# Altium integrated library Xilinx PLD XC9500XL.IntLib: 85 symbols (part 2 of 5)
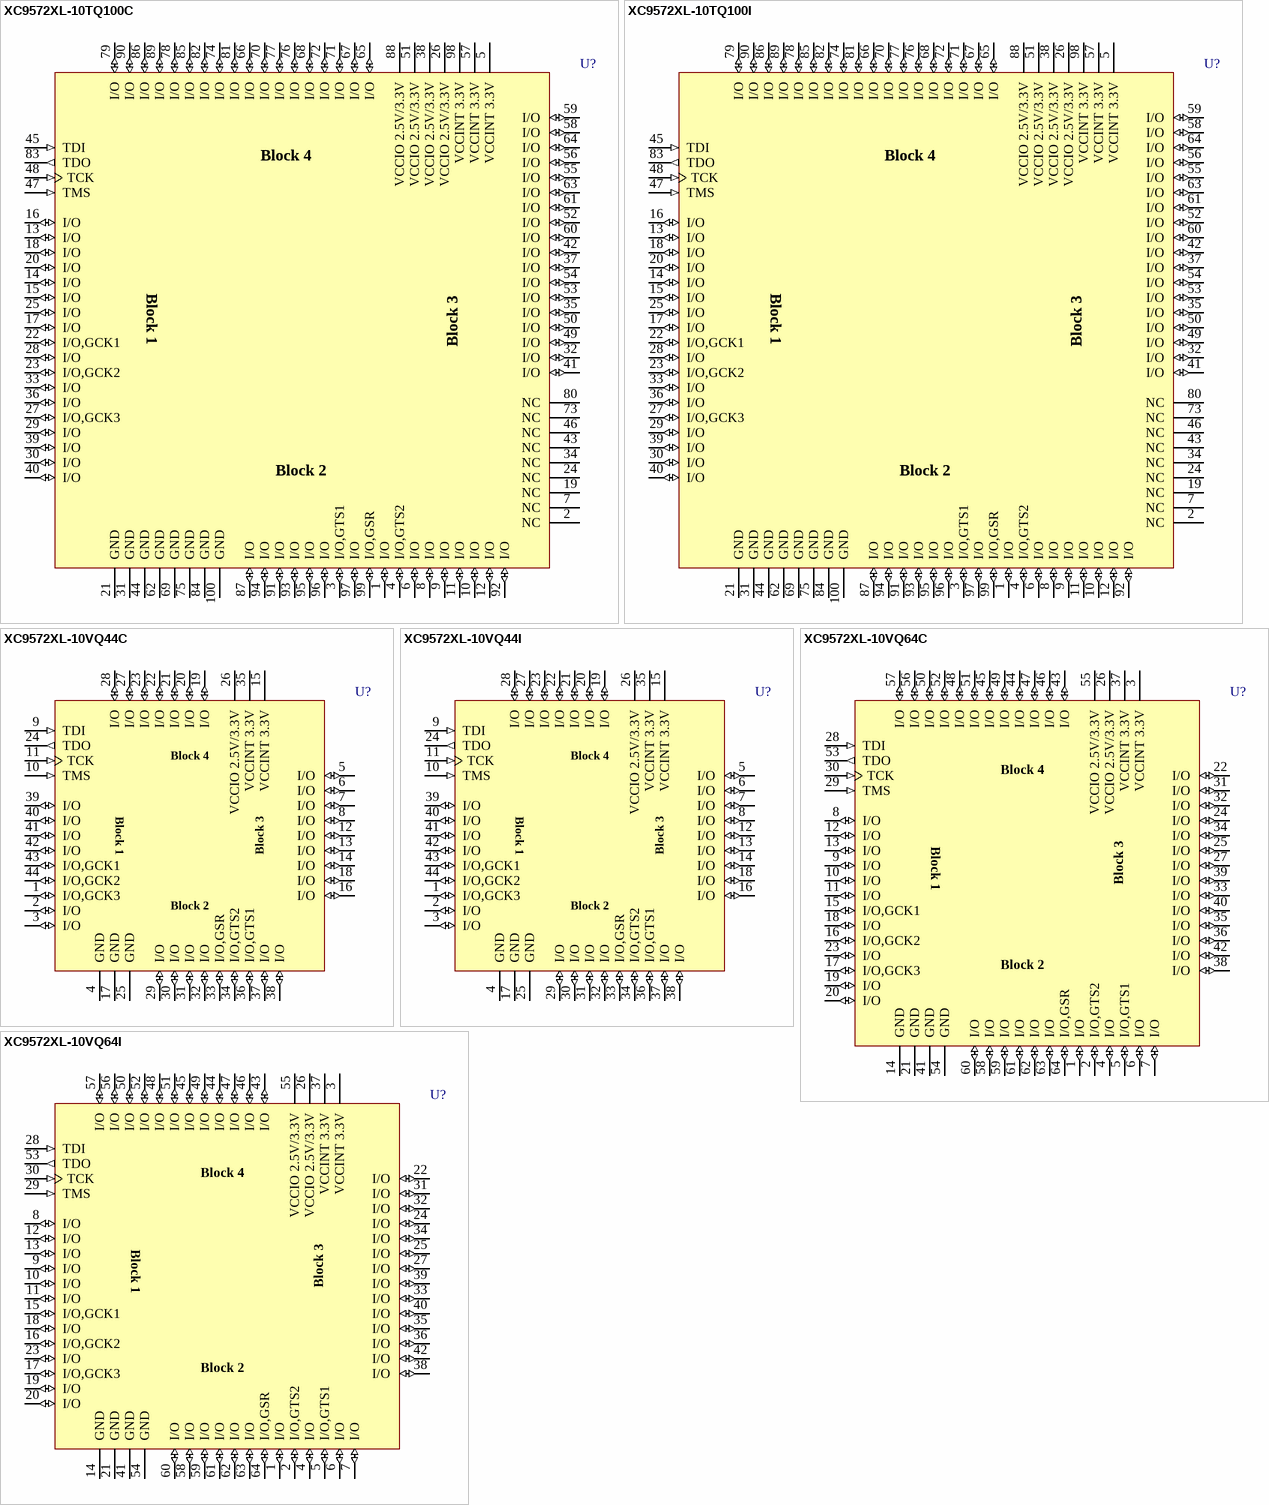
[diagram p34: symbols XC9572XL-10TQ100C to XC9572XL-10VQ64I]

## XC9572XL-10TQ100C
designator U?
FastFLASH XC900XL, 3.3V High-Performance CPLD with 72 Macrocells, 100-Pin TQFP, Commercial Grade; PackageDocument: ver1.1, Oct-2002; Published: 17-Jul-2002; DatasheetDocument: ver1.4, Aug-2003; PackageReference: TQ100; Publisher: Altium Limited; Code_IPC: SQFP14X14-100
footprint TQ100 (100-Pin Thin Quad Flat Pack (TQ100))
3D model XC9572XL-TQ100 (100-Pin Thin Quad Flat Pack (TQ100))
signal-integrity model XC9572XL_TQ100 (XC9500XL)
pins: 1 I/O (io), 2 NC, 3 I/O,GTS1 (io), 4 I/O,GTS2 (io), 5 VCCINT 3.3V (power), 6 I/O (io), 7 NC, 8 I/O (io), 9 I/O (io), 10 I/O (io), 11 I/O (io), 12 I/O (io), 13 I/O (io), 14 I/O (io), 15 I/O (io), 16 I/O (io), 17 I/O (io), 18 I/O (io), 19 NC, 20 I/O (io), 21 GND (power), 22 I/O,GCK1 (io), 23 I/O,GCK2 (io), 24 NC, 25 I/O (io), 26 VCCIO 2.5V/3.3V (power), 27 I/O,GCK3 (io), 28 I/O (io), 29 I/O (io), 30 I/O (io), 31 GND (power), 32 I/O (io), 33 I/O (io), 34 NC, 35 I/O (io), 36 I/O (io), 37 I/O (io), 38 VCCIO 2.5V/3.3V (power), 39 I/O (io), 40 I/O (io), 41 I/O (io), 42 I/O (io), 43 NC, 44 GND (power), 45 TDI (in), 46 NC, 47 TMS (in), 48 TCK (in), 49 I/O (io), 50 I/O (io), 51 VCCIO 2.5V/3.3V (power), 52 I/O (io), 53 I/O (io), 54 I/O (io), 55 I/O (io), 56 I/O (io), 57 VCCINT 3.3V (power), 58 I/O (io), 59 I/O (io), 60 I/O (io), 61 I/O (io), 62 GND (power), 63 I/O (io), 64 I/O (io), 65 I/O (io), 66 I/O (io), 67 I/O (io), 68 I/O (io), 69 GND (power), 70 I/O (io), 71 I/O (io), 72 I/O (io), 73 NC, 74 I/O (io), 75 GND (power), 76 I/O (io), 77 I/O (io), 78 I/O (io), 79 I/O (io), 80 NC, 81 I/O (io), 82 I/O (io), 83 TDO (out), 84 GND (power), 85 I/O (io), 86 I/O (io), 87 I/O (io), 88 VCCIO 2.5V/3.3V (power), 89 I/O (io), 90 I/O (io), 91 I/O (io), 92 I/O (io), 93 I/O (io), 94 I/O (io), 95 I/O (io), 96 I/O (io), 97 I/O (io), 98 VCCINT 3.3V (power), 99 I/O,GSR (io), 100 GND (power)
text: Block 4; Block 1; Block 3; Block 2

## XC9572XL-10TQ100I
designator U?
FastFLASH XC900XL, 3.3V High-Performance CPLD with 72 Macrocells, 100-Pin TQFP, Industrial Grade; PackageDocument: ver1.1, Oct-2002; Published: 17-Jul-2002; DatasheetDocument: ver1.4, Aug-2003; PackageReference: TQ100; Publisher: Altium Limited; Code_IPC: SQFP14X14-100
footprint TQ100 (100-Pin Thin Quad Flat Pack (TQ100))
3D model XC9572XL-TQ100 (100-Pin Thin Quad Flat Pack (TQ100))
signal-integrity model XC9572XL_TQ100 (XC9500XL)
pins: 1 I/O (io), 2 NC, 3 I/O,GTS1 (io), 4 I/O,GTS2 (io), 5 VCCINT 3.3V (power), 6 I/O (io), 7 NC, 8 I/O (io), 9 I/O (io), 10 I/O (io), 11 I/O (io), 12 I/O (io), 13 I/O (io), 14 I/O (io), 15 I/O (io), 16 I/O (io), 17 I/O (io), 18 I/O (io), 19 NC, 20 I/O (io), 21 GND (power), 22 I/O,GCK1 (io), 23 I/O,GCK2 (io), 24 NC, 25 I/O (io), 26 VCCIO 2.5V/3.3V (power), 27 I/O,GCK3 (io), 28 I/O (io), 29 I/O (io), 30 I/O (io), 31 GND (power), 32 I/O (io), 33 I/O (io), 34 NC, 35 I/O (io), 36 I/O (io), 37 I/O (io), 38 VCCIO 2.5V/3.3V (power), 39 I/O (io), 40 I/O (io), 41 I/O (io), 42 I/O (io), 43 NC, 44 GND (power), 45 TDI (in), 46 NC, 47 TMS (in), 48 TCK (in), 49 I/O (io), 50 I/O (io), 51 VCCIO 2.5V/3.3V (power), 52 I/O (io), 53 I/O (io), 54 I/O (io), 55 I/O (io), 56 I/O (io), 57 VCCINT 3.3V (power), 58 I/O (io), 59 I/O (io), 60 I/O (io), 61 I/O (io), 62 GND (power), 63 I/O (io), 64 I/O (io), 65 I/O (io), 66 I/O (io), 67 I/O (io), 68 I/O (io), 69 GND (power), 70 I/O (io), 71 I/O (io), 72 I/O (io), 73 NC, 74 I/O (io), 75 GND (power), 76 I/O (io), 77 I/O (io), 78 I/O (io), 79 I/O (io), 80 NC, 81 I/O (io), 82 I/O (io), 83 TDO (out), 84 GND (power), 85 I/O (io), 86 I/O (io), 87 I/O (io), 88 VCCIO 2.5V/3.3V (power), 89 I/O (io), 90 I/O (io), 91 I/O (io), 92 I/O (io), 93 I/O (io), 94 I/O (io), 95 I/O (io), 96 I/O (io), 97 I/O (io), 98 VCCINT 3.3V (power), 99 I/O,GSR (io), 100 GND (power)
text: Block 4; Block 1; Block 3; Block 2

## XC9572XL-10VQ44C
designator U?
FastFLASH XC900XL, 3.3V High-Performance CPLD with 72 Macrocells, 44-Pin VQFP, Commercial Grade; PackageDocument: ver1.1, Oct-2002; Published: 17-Jul-2002; DatasheetDocument: ver1.4, Aug-2003; PackageReference: VQ44; Publisher: Altium Limited; Code_JEDEC: MS-026-ACB
footprint VQ44 (44-Pin Very Thin Quad Flat Pack (VQ44))
3D model XC9572XL-VQ44 (44-Pin Very Thin Quad Flat Pack (VQ44))
signal-integrity model XC9572XL_VQ44 (XC9500XL)
pins: 1 I/O,GCK3 (io), 2 I/O (io), 3 I/O (io), 4 GND (power), 5 I/O (io), 6 I/O (io), 7 I/O (io), 8 I/O (io), 9 TDI (in), 10 TMS (in), 11 TCK (in), 12 I/O (io), 13 I/O (io), 14 I/O (io), 15 VCCINT 3.3V (power), 16 I/O (io), 17 GND (power), 18 I/O (io), 19 I/O (io), 20 I/O (io), 21 I/O (io), 22 I/O (io), 23 I/O (io), 24 TDO (out), 25 GND (power), 26 VCCIO 2.5V/3.3V (power), 27 I/O (io), 28 I/O (io), 29 I/O (io), 30 I/O (io), 31 I/O (io), 32 I/O (io), 33 I/O,GSR (io), 34 I/O,GTS2 (io), 35 VCCINT 3.3V (power), 36 I/O,GTS1 (io), 37 I/O (io), 38 I/O (io), 39 I/O (io), 40 I/O (io), 41 I/O (io), 42 I/O (io), 43 I/O,GCK1 (io), 44 I/O,GCK2 (io)
text: Block 4; Block 1; Block 3; Block 2

## XC9572XL-10VQ44I
designator U?
FastFLASH XC900XL, 3.3V High-Performance CPLD with 72 Macrocells, 44-Pin VQFP, Industrial Grade; PackageDocument: ver1.1, Oct-2002; Published: 17-Jul-2002; DatasheetDocument: ver1.4, Aug-2003; PackageReference: VQ44; Publisher: Altium Limited; Code_JEDEC: MS-026-ACB
footprint VQ44 (44-Pin Very Thin Quad Flat Pack (VQ44))
3D model XC9572XL-VQ44 (44-Pin Very Thin Quad Flat Pack (VQ44))
signal-integrity model XC9572XL_VQ44 (XC9500XL)
pins: 1 I/O,GCK3 (io), 2 I/O (io), 3 I/O (io), 4 GND (power), 5 I/O (io), 6 I/O (io), 7 I/O (io), 8 I/O (io), 9 TDI (in), 10 TMS (in), 11 TCK (in), 12 I/O (io), 13 I/O (io), 14 I/O (io), 15 VCCINT 3.3V (power), 16 I/O (io), 17 GND (power), 18 I/O (io), 19 I/O (io), 20 I/O (io), 21 I/O (io), 22 I/O (io), 23 I/O (io), 24 TDO (out), 25 GND (power), 26 VCCIO 2.5V/3.3V (power), 27 I/O (io), 28 I/O (io), 29 I/O (io), 30 I/O (io), 31 I/O (io), 32 I/O (io), 33 I/O,GSR (io), 34 I/O,GTS2 (io), 35 VCCINT 3.3V (power), 36 I/O,GTS1 (io), 37 I/O (io), 38 I/O (io), 39 I/O (io), 40 I/O (io), 41 I/O (io), 42 I/O (io), 43 I/O,GCK1 (io), 44 I/O,GCK2 (io)
text: Block 4; Block 1; Block 3; Block 2

## XC9572XL-10VQ64C
designator U?
FastFLASH XC900XL, 3.3V High-Performance CPLD with 72 Macrocells, 64-Pin VQFP, Commercial Grade; PackageDocument: ver1.1, Oct-2002; Published: 17-Jul-2002; DatasheetDocument: ver1.4, Aug-2003; PackageReference: VQ64; Publisher: Altium Limited; Code_JEDEC: MS-026-ACD
footprint VQ64 (64-Pin Very Thin Quad Flat Pack (VQ64))
3D model XC9572XL-VQ64 (64-Pin Very Thin Quad Flat Pack (VQ64))
signal-integrity model XC9572XL_VQ64 (XC9500XL)
pins: 1 I/O (io), 2 I/O,GTS2 (io), 3 VCCINT 3.3V (power), 4 I/O (io), 5 I/O,GTS1 (io), 6 I/O (io), 7 I/O (io), 8 I/O (io), 9 I/O (io), 10 I/O (io), 11 I/O (io), 12 I/O (io), 13 I/O (io), 14 GND (power), 15 I/O,GCK1 (io), 16 I/O,GCK2 (io), 17 I/O,GCK3 (io), 18 I/O (io), 19 I/O (io), 20 I/O (io), 21 GND (power), 22 I/O (io), 23 I/O (io), 24 I/O (io), 25 I/O (io), 26 VCCIO 2.5V/3.3V (power), 27 I/O (io), 28 TDI (in), 29 TMS (in), 30 TCK (in), 31 I/O (io), 32 I/O (io), 33 I/O (io), 34 I/O (io), 35 I/O (io), 36 I/O (io), 37 VCCINT 3.3V (power), 38 I/O (io), 39 I/O (io), 40 I/O (io), 41 GND (power), 42 I/O (io), 43 I/O (io), 44 I/O (io), 45 I/O (io), 46 I/O (io), 47 I/O (io), 48 I/O (io), 49 I/O (io), 50 I/O (io), 51 I/O (io), 52 I/O (io), 53 TDO (out), 54 GND (power), 55 VCCIO 2.5V/3.3V (power), 56 I/O (io), 57 I/O (io), 58 I/O (io), 59 I/O (io), 60 I/O (io), 61 I/O (io), 62 I/O (io), 63 I/O (io), 64 I/O,GSR (io)
text: Block 4; Block 1; Block 3; Block 2

## XC9572XL-10VQ64I
designator U?
FastFLASH XC900XL, 3.3V High-Performance CPLD with 72 Macrocells, 64-Pin VQFP, Industrial Grade; PackageDocument: ver1.1, Oct-2002; Published: 17-Jul-2002; DatasheetDocument: ver1.4, Aug-2003; PackageReference: VQ64; Publisher: Altium Limited; Code_JEDEC: MS-026-ACD
footprint VQ64 (64-Pin Very Thin Quad Flat Pack (VQ64))
3D model XC9572XL-VQ64 (64-Pin Very Thin Quad Flat Pack (VQ64))
signal-integrity model XC9572XL_VQ64 (XC9500XL)
pins: 1 I/O (io), 2 I/O,GTS2 (io), 3 VCCINT 3.3V (power), 4 I/O (io), 5 I/O,GTS1 (io), 6 I/O (io), 7 I/O (io), 8 I/O (io), 9 I/O (io), 10 I/O (io), 11 I/O (io), 12 I/O (io), 13 I/O (io), 14 GND (power), 15 I/O,GCK1 (io), 16 I/O,GCK2 (io), 17 I/O,GCK3 (io), 18 I/O (io), 19 I/O (io), 20 I/O (io), 21 GND (power), 22 I/O (io), 23 I/O (io), 24 I/O (io), 25 I/O (io), 26 VCCIO 2.5V/3.3V (power), 27 I/O (io), 28 TDI (in), 29 TMS (in), 30 TCK (in), 31 I/O (io), 32 I/O (io), 33 I/O (io), 34 I/O (io), 35 I/O (io), 36 I/O (io), 37 VCCINT 3.3V (power), 38 I/O (io), 39 I/O (io), 40 I/O (io), 41 GND (power), 42 I/O (io), 43 I/O (io), 44 I/O (io), 45 I/O (io), 46 I/O (io), 47 I/O (io), 48 I/O (io), 49 I/O (io), 50 I/O (io), 51 I/O (io), 52 I/O (io), 53 TDO (out), 54 GND (power), 55 VCCIO 2.5V/3.3V (power), 56 I/O (io), 57 I/O (io), 58 I/O (io), 59 I/O (io), 60 I/O (io), 61 I/O (io), 62 I/O (io), 63 I/O (io), 64 I/O,GSR (io)
text: Block 4; Block 1; Block 3; Block 2

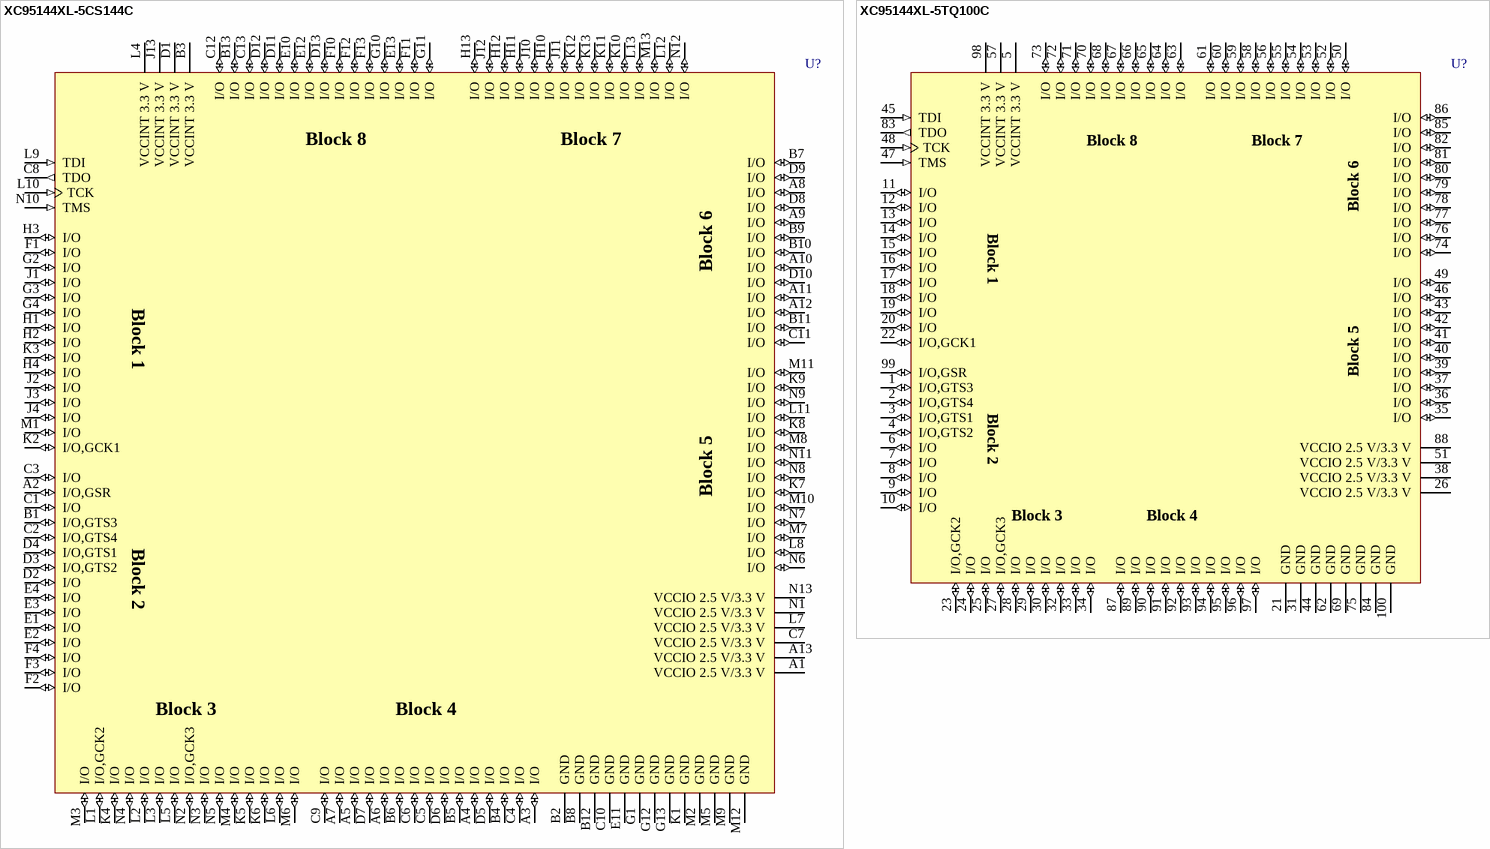
[diagram p6: symbols XC95144XL-5CS144C to XC95144XL-5TQ100C]

## XC95144XL-5CS144C
designator U?
FastFLASH XC900XL, 3.3V High-Performance CPLD with 144 Macrocells, 144-Ball CSBGA, Commercial Grade; PackageDocument: ver1.0, Jun-2000; Published: 17-Sep-2003; DatasheetDocument: ver1.5, Aug-2003; PackageReference: CS144; Publisher: Altium Limited
footprint CS144 (144-Ball Chip Scale Ball Grid Array (CS144))
3D model XC95144XL-CS144 (144-Ball Chip Scale Ball Grid Array (CS144))
signal-integrity model XC95144XL_CS144 (XC9500XL)
pins: A1 VCCIO 2.5 V/3.3 V (power), A2 I/O,GSR (io), A3 I/O (io), A4 I/O (io), A5 I/O (io), A6 I/O (io), A7 I/O (io), A8 I/O (io), A9 I/O (io), A10 I/O (io), A11 I/O (io), A12 I/O (io), A13 VCCIO 2.5 V/3.3 V (power), B1 I/O,GTS3 (io), B2 GND (power), B3 VCCINT 3.3 V (power), B4 I/O (io), B5 I/O (io), B6 I/O (io), B7 I/O (io), B8 GND (power), B9 I/O (io), B10 I/O (io), B11 I/O (io), B12 GND (power), B13 I/O (io), C1 I/O (io), C2 I/O,GTS4 (io), C3 I/O (io), C4 I/O (io), C5 I/O (io), C6 I/O (io), C7 VCCIO 2.5 V/3.3 V (power), C8 TDO (out), C9 I/O (io), C10 GND (power), C11 I/O (io), C12 I/O (io), C13 I/O (io), D1 VCCINT 3.3 V (power), D2 I/O (io), D3 I/O,GTS2 (io), D4 I/O,GTS1 (io), D5 I/O (io), D6 I/O (io), D7 I/O (io), D8 I/O (io), D9 I/O (io), D10 I/O (io), D11 I/O (io), D12 I/O (io), D13 I/O (io), E1 I/O (io), E2 I/O (io), E3 I/O (io), E4 I/O (io), E10 I/O (io), E11 GND (power), E12 I/O (io), E13 I/O (io), F1 I/O (io), F2 I/O (io), F3 I/O (io), F4 I/O (io), F10 I/O (io), F11 I/O (io), F12 I/O (io), F13 I/O (io), G1 GND (power), G2 I/O (io), G3 I/O (io), G4 I/O (io), G10 I/O (io), G11 I/O (io), G12 GND (power), G13 GND (power), H1 I/O (io), H2 I/O (io), H3 I/O (io), H4 I/O (io), H10 I/O (io), H11 I/O (io), H12 I/O (io), H13 I/O (io), J1 I/O (io), J2 I/O (io), J3 I/O (io), J4 I/O (io), J10 I/O (io), J11 I/O (io), J12 I/O (io), J13 VCCINT 3.3 V (power), K1 GND (power), K2 I/O,GCK1 (io), K3 I/O (io), K4 I/O (io), K5 I/O (io), K6 I/O (io), K7 I/O (io), K8 I/O (io), K9 I/O (io), K10 I/O (io), K11 I/O (io), K12 I/O (io), K13 I/O (io), L1 I/O,GCK2 (io), L2 I/O (io), L3 I/O (io), L4 VCCINT 3.3 V (power), L5 I/O (io), L6 I/O (io), L7 VCCIO 2.5 V/3.3 V (power), L8 I/O (io), L9 TDI (in), L10 TCK (in), L11 I/O (io), L12 I/O (io), L13 I/O (io), M1 I/O (io), M2 GND (power), M3 I/O (io), M4 I/O (io), M5 GND (power), M6 I/O (io), M7 I/O (io), M8 I/O (io), M9 GND (power), M10 I/O (io), M11 I/O (io), M12 GND (power), M13 I/O (io), N1 VCCIO 2.5 V/3.3 V (power), N2 I/O,GCK3 (io), N3 I/O (io), N4 I/O (io), N5 I/O (io), N6 I/O (io), N7 I/O (io), N8 I/O (io), N9 I/O (io), N10 TMS (in), N11 I/O (io), N12 I/O (io), N13 VCCIO 2.5 V/3.3 V (power)
text: Block 8; Block 7; Block 6; Block 1; Block 5; Block 2; Block 3; Block 4

## XC95144XL-5TQ100C
designator U?
FastFLASH XC900XL, 3.3V High-Performance CPLD with 144 Macrocells, 100-Pin TQFP, Commercial Grade; PackageDocument: ver1.1, Oct-2002; Published: 17-Sep-2003; DatasheetDocument: ver1.5, Aug-2003; PackageReference: TQ100; Publisher: Altium Limited; Code_IPC: SQFP14X14-100
footprint TQ100 (100-Pin Thin Quad Flat Pack (TQ100))
3D model XC95144XL-TQ100 (100-Pin Thin Quad Flat Pack (TQ100))
signal-integrity model XC95144XL_TQ100 (XC9500XL)
pins: 1 I/O,GTS3 (io), 2 I/O,GTS4 (io), 3 I/O,GTS1 (io), 4 I/O,GTS2 (io), 5 VCCINT 3.3 V (power), 6 I/O (io), 7 I/O (io), 8 I/O (io), 9 I/O (io), 10 I/O (io), 11 I/O (io), 12 I/O (io), 13 I/O (io), 14 I/O (io), 15 I/O (io), 16 I/O (io), 17 I/O (io), 18 I/O (io), 19 I/O (io), 20 I/O (io), 21 GND (power), 22 I/O,GCK1 (io), 23 I/O,GCK2 (io), 24 I/O (io), 25 I/O (io), 26 VCCIO 2.5 V/3.3 V (power), 27 I/O,GCK3 (io), 28 I/O (io), 29 I/O (io), 30 I/O (io), 31 GND (power), 32 I/O (io), 33 I/O (io), 34 I/O (io), 35 I/O (io), 36 I/O (io), 37 I/O (io), 38 VCCIO 2.5 V/3.3 V (power), 39 I/O (io), 40 I/O (io), 41 I/O (io), 42 I/O (io), 43 I/O (io), 44 GND (power), 45 TDI (in), 46 I/O (io), 47 TMS (in), 48 TCK (in), 49 I/O (io), 50 I/O (io), 51 VCCIO 2.5 V/3.3 V (power), 52 I/O (io), 53 I/O (io), 54 I/O (io), 55 I/O (io), 56 I/O (io), 57 VCCINT 3.3 V (power), 58 I/O (io), 59 I/O (io), 60 I/O (io), 61 I/O (io), 62 GND (power), 63 I/O (io), 64 I/O (io), 65 I/O (io), 66 I/O (io), 67 I/O (io), 68 I/O (io), 69 GND (power), 70 I/O (io), 71 I/O (io), 72 I/O (io), 73 I/O (io), 74 I/O (io), 75 GND (power), 76 I/O (io), 77 I/O (io), 78 I/O (io), 79 I/O (io), 80 I/O (io), 81 I/O (io), 82 I/O (io), 83 TDO (out), 84 GND (power), 85 I/O (io), 86 I/O (io), 87 I/O (io), 88 VCCIO 2.5 V/3.3 V (power), 89 I/O (io), 90 I/O (io), 91 I/O (io), 92 I/O (io), 93 I/O (io), 94 I/O (io), 95 I/O (io), 96 I/O (io), 97 I/O (io), 98 VCCINT 3.3 V (power), 99 I/O,GSR (io), 100 GND (power)
text: Block 8; Block 7; Block 6; Block 1; Block 5; Block 2; Block 3; Block 4

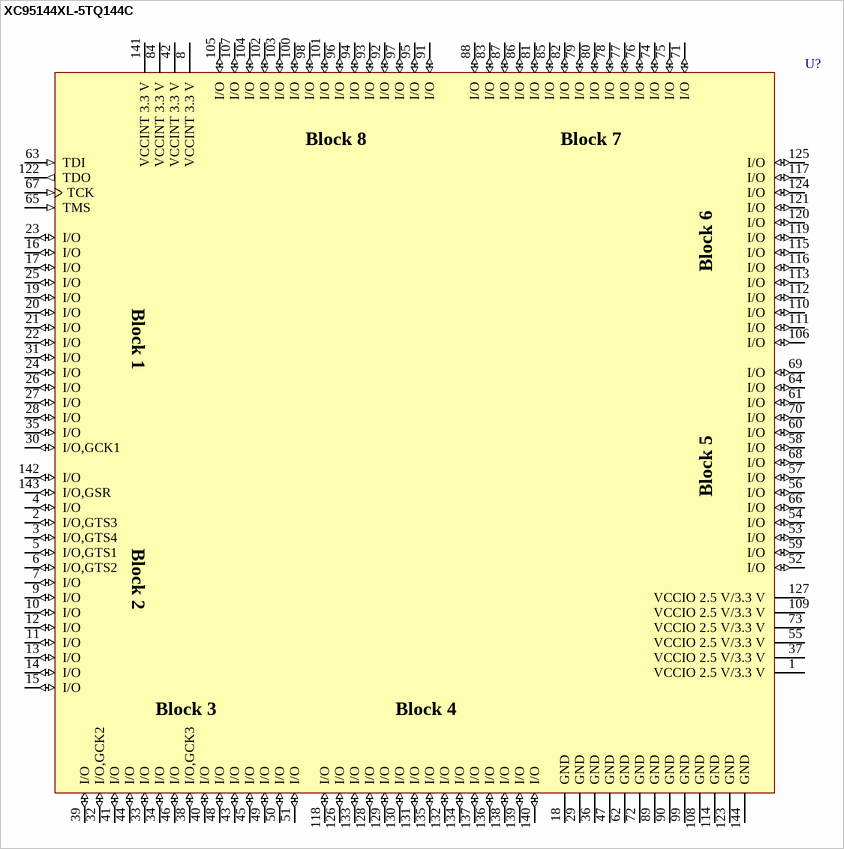
[diagram p7: symbol XC95144XL-5TQ144C]

## XC95144XL-5TQ144C
designator U?
FastFLASH XC900XL, 3.3V High-Performance CPLD with 144 Macrocells, 144-Pin TQFP, Commercial Grade; PackageDocument: ver1.1, Oct-2002; Published: 17-Sep-2003; DatasheetDocument: ver1.5, Aug-2003; PackageReference: TQ144; Publisher: Altium Limited; Code_JEDEC: MS-026-BFB; Code_IPC: SQFP20X20-144
footprint TQ144 (144-Pin Thin Quad Flat Pack (TQ144))
3D model XC95144XL-TQ144 (144-Pin Thin Quad Flat Pack (TQ144))
signal-integrity model XC95144XL_TQ144 (XC9500XL)
pins: 1 VCCIO 2.5 V/3.3 V (power), 2 I/O,GTS3 (io), 3 I/O,GTS4 (io), 4 I/O (io), 5 I/O,GTS1 (io), 6 I/O,GTS2 (io), 7 I/O (io), 8 VCCINT 3.3 V (power), 9 I/O (io), 10 I/O (io), 11 I/O (io), 12 I/O (io), 13 I/O (io), 14 I/O (io), 15 I/O (io), 16 I/O (io), 17 I/O (io), 18 GND (power), 19 I/O (io), 20 I/O (io), 21 I/O (io), 22 I/O (io), 23 I/O (io), 24 I/O (io), 25 I/O (io), 26 I/O (io), 27 I/O (io), 28 I/O (io), 29 GND (power), 30 I/O,GCK1 (io), 31 I/O (io), 32 I/O,GCK2 (io), 33 I/O (io), 34 I/O (io), 35 I/O (io), 36 GND (power), 37 VCCIO 2.5 V/3.3 V (power), 38 I/O,GCK3 (io), 39 I/O (io), 40 I/O (io), 41 I/O (io), 42 VCCINT 3.3 V (power), 43 I/O (io), 44 I/O (io), 45 I/O (io), 46 I/O (io), 47 GND (power), 48 I/O (io), 49 I/O (io), 50 I/O (io), 51 I/O (io), 52 I/O (io), 53 I/O (io), 54 I/O (io), 55 VCCIO 2.5 V/3.3 V (power), 56 I/O (io), 57 I/O (io), 58 I/O (io), 59 I/O (io), 60 I/O (io), 61 I/O (io), 62 GND (power), 63 TDI (in), 64 I/O (io), 65 TMS (in), 66 I/O (io), 67 TCK (in), 68 I/O (io), 69 I/O (io), 70 I/O (io), 71 I/O (io), 72 GND (power), 73 VCCIO 2.5 V/3.3 V (power), 74 I/O (io), 75 I/O (io), 76 I/O (io), 77 I/O (io), 78 I/O (io), 79 I/O (io), 80 I/O (io), 81 I/O (io), 82 I/O (io), 83 I/O (io), 84 VCCINT 3.3 V (power), 85 I/O (io), 86 I/O (io), 87 I/O (io), 88 I/O (io), 89 GND (power), 90 GND (power), 91 I/O (io), 92 I/O (io), 93 I/O (io), 94 I/O (io), 95 I/O (io), 96 I/O (io), 97 I/O (io), 98 I/O (io), 99 GND (power), 100 I/O (io), 101 I/O (io), 102 I/O (io), 103 I/O (io), 104 I/O (io), 105 I/O (io), 106 I/O (io), 107 I/O (io), 108 GND (power), 109 VCCIO 2.5 V/3.3 V (power), 110 I/O (io), 111 I/O (io), 112 I/O (io), 113 I/O (io), 114 GND (power), 115 I/O (io), 116 I/O (io), 117 I/O (io), 118 I/O (io), 119 I/O (io), 120 I/O (io), 121 I/O (io), 122 TDO (out), 123 GND (power), 124 I/O (io), 125 I/O (io), 126 I/O (io), 127 VCCIO 2.5 V/3.3 V (power), 128 I/O (io), 129 I/O (io), 130 I/O (io), 131 I/O (io), 132 I/O (io), 133 I/O (io), 134 I/O (io), 135 I/O (io), 136 I/O (io), 137 I/O (io), 138 I/O (io), 139 I/O (io), 140 I/O (io), 141 VCCINT 3.3 V (power), 142 I/O (io), 143 I/O,GSR (io), 144 GND (power)
text: Block 8; Block 7; Block 6; Block 1; Block 5; Block 2; Block 3; Block 4

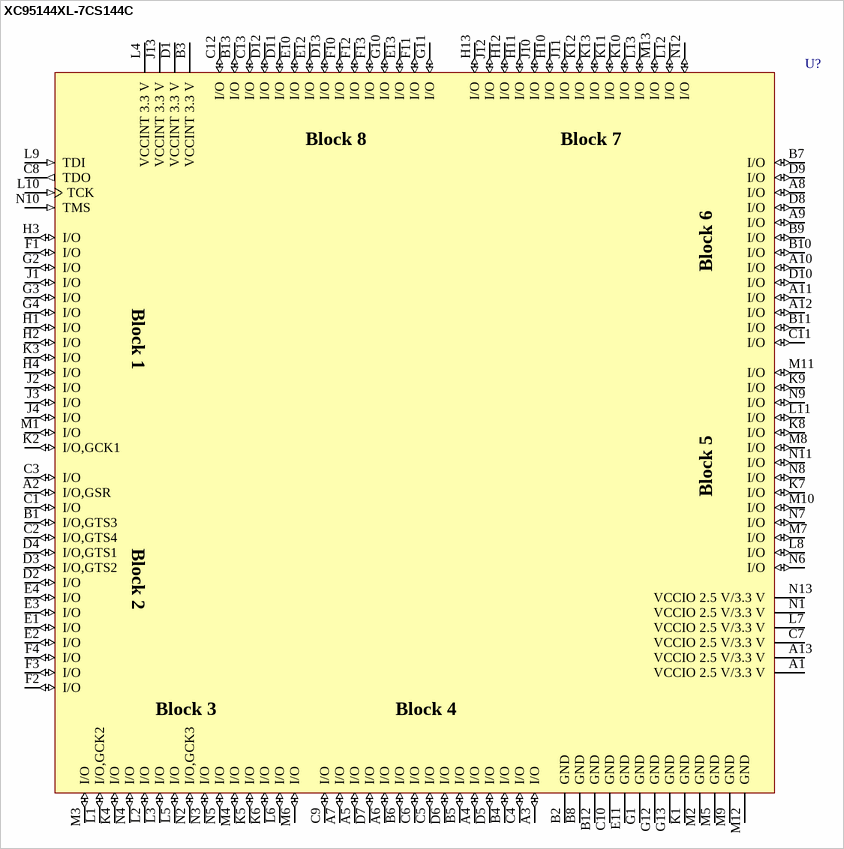
[diagram p8: symbol XC95144XL-7CS144C]

## XC95144XL-7CS144C
designator U?
FastFLASH XC900XL, 3.3V High-Performance CPLD with 144 Macrocells, 144-Ball CSBGA, Commercial Grade; PackageDocument: ver1.0, Jun-2000; Published: 17-Sep-2003; DatasheetDocument: ver1.5, Aug-2003; PackageReference: CS144; Publisher: Altium Limited
footprint CS144 (144-Ball Chip Scale Ball Grid Array (CS144))
3D model XC95144XL-CS144 (144-Ball Chip Scale Ball Grid Array (CS144))
signal-integrity model XC95144XL_CS144 (XC9500XL)
pins: A1 VCCIO 2.5 V/3.3 V (power), A2 I/O,GSR (io), A3 I/O (io), A4 I/O (io), A5 I/O (io), A6 I/O (io), A7 I/O (io), A8 I/O (io), A9 I/O (io), A10 I/O (io), A11 I/O (io), A12 I/O (io), A13 VCCIO 2.5 V/3.3 V (power), B1 I/O,GTS3 (io), B2 GND (power), B3 VCCINT 3.3 V (power), B4 I/O (io), B5 I/O (io), B6 I/O (io), B7 I/O (io), B8 GND (power), B9 I/O (io), B10 I/O (io), B11 I/O (io), B12 GND (power), B13 I/O (io), C1 I/O (io), C2 I/O,GTS4 (io), C3 I/O (io), C4 I/O (io), C5 I/O (io), C6 I/O (io), C7 VCCIO 2.5 V/3.3 V (power), C8 TDO (out), C9 I/O (io), C10 GND (power), C11 I/O (io), C12 I/O (io), C13 I/O (io), D1 VCCINT 3.3 V (power), D2 I/O (io), D3 I/O,GTS2 (io), D4 I/O,GTS1 (io), D5 I/O (io), D6 I/O (io), D7 I/O (io), D8 I/O (io), D9 I/O (io), D10 I/O (io), D11 I/O (io), D12 I/O (io), D13 I/O (io), E1 I/O (io), E2 I/O (io), E3 I/O (io), E4 I/O (io), E10 I/O (io), E11 GND (power), E12 I/O (io), E13 I/O (io), F1 I/O (io), F2 I/O (io), F3 I/O (io), F4 I/O (io), F10 I/O (io), F11 I/O (io), F12 I/O (io), F13 I/O (io), G1 GND (power), G2 I/O (io), G3 I/O (io), G4 I/O (io), G10 I/O (io), G11 I/O (io), G12 GND (power), G13 GND (power), H1 I/O (io), H2 I/O (io), H3 I/O (io), H4 I/O (io), H10 I/O (io), H11 I/O (io), H12 I/O (io), H13 I/O (io), J1 I/O (io), J2 I/O (io), J3 I/O (io), J4 I/O (io), J10 I/O (io), J11 I/O (io), J12 I/O (io), J13 VCCINT 3.3 V (power), K1 GND (power), K2 I/O,GCK1 (io), K3 I/O (io), K4 I/O (io), K5 I/O (io), K6 I/O (io), K7 I/O (io), K8 I/O (io), K9 I/O (io), K10 I/O (io), K11 I/O (io), K12 I/O (io), K13 I/O (io), L1 I/O,GCK2 (io), L2 I/O (io), L3 I/O (io), L4 VCCINT 3.3 V (power), L5 I/O (io), L6 I/O (io), L7 VCCIO 2.5 V/3.3 V (power), L8 I/O (io), L9 TDI (in), L10 TCK (in), L11 I/O (io), L12 I/O (io), L13 I/O (io), M1 I/O (io), M2 GND (power), M3 I/O (io), M4 I/O (io), M5 GND (power), M6 I/O (io), M7 I/O (io), M8 I/O (io), M9 GND (power), M10 I/O (io), M11 I/O (io), M12 GND (power), M13 I/O (io), N1 VCCIO 2.5 V/3.3 V (power), N2 I/O,GCK3 (io), N3 I/O (io), N4 I/O (io), N5 I/O (io), N6 I/O (io), N7 I/O (io), N8 I/O (io), N9 I/O (io), N10 TMS (in), N11 I/O (io), N12 I/O (io), N13 VCCIO 2.5 V/3.3 V (power)
text: Block 8; Block 7; Block 6; Block 1; Block 5; Block 2; Block 3; Block 4

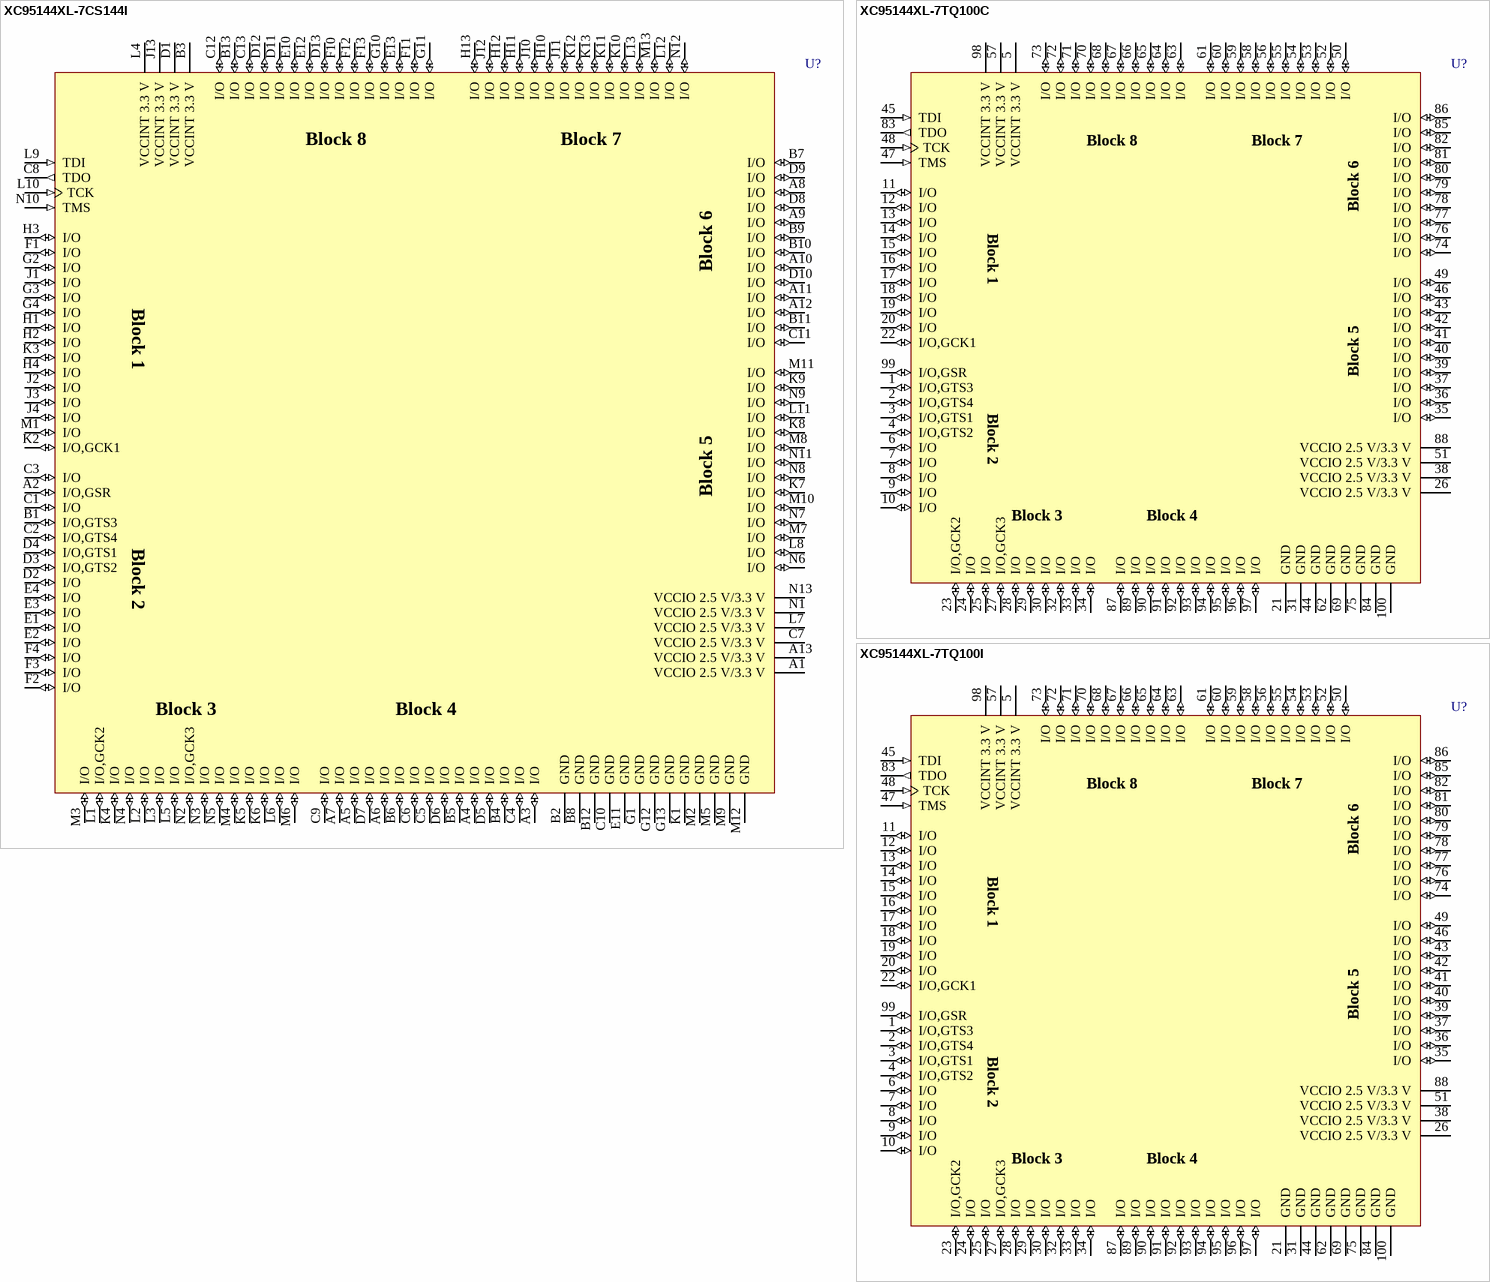
[diagram p9: symbols XC95144XL-7CS144I to XC95144XL-7TQ100I]

## XC95144XL-7CS144I
designator U?
FastFLASH XC900XL, 3.3V High-Performance CPLD with 144 Macrocells, 144-Ball CSBGA, Industrial Grade; PackageDocument: ver1.0, Jun-2000; Published: 17-Sep-2003; DatasheetDocument: ver1.5, Aug-2003; PackageReference: CS144; Publisher: Altium Limited
footprint CS144 (144-Ball Chip Scale Ball Grid Array (CS144))
3D model XC95144XL-CS144 (144-Ball Chip Scale Ball Grid Array (CS144))
signal-integrity model XC95144XL_CS144 (XC9500XL)
pins: A1 VCCIO 2.5 V/3.3 V (power), A2 I/O,GSR (io), A3 I/O (io), A4 I/O (io), A5 I/O (io), A6 I/O (io), A7 I/O (io), A8 I/O (io), A9 I/O (io), A10 I/O (io), A11 I/O (io), A12 I/O (io), A13 VCCIO 2.5 V/3.3 V (power), B1 I/O,GTS3 (io), B2 GND (power), B3 VCCINT 3.3 V (power), B4 I/O (io), B5 I/O (io), B6 I/O (io), B7 I/O (io), B8 GND (power), B9 I/O (io), B10 I/O (io), B11 I/O (io), B12 GND (power), B13 I/O (io), C1 I/O (io), C2 I/O,GTS4 (io), C3 I/O (io), C4 I/O (io), C5 I/O (io), C6 I/O (io), C7 VCCIO 2.5 V/3.3 V (power), C8 TDO (out), C9 I/O (io), C10 GND (power), C11 I/O (io), C12 I/O (io), C13 I/O (io), D1 VCCINT 3.3 V (power), D2 I/O (io), D3 I/O,GTS2 (io), D4 I/O,GTS1 (io), D5 I/O (io), D6 I/O (io), D7 I/O (io), D8 I/O (io), D9 I/O (io), D10 I/O (io), D11 I/O (io), D12 I/O (io), D13 I/O (io), E1 I/O (io), E2 I/O (io), E3 I/O (io), E4 I/O (io), E10 I/O (io), E11 GND (power), E12 I/O (io), E13 I/O (io), F1 I/O (io), F2 I/O (io), F3 I/O (io), F4 I/O (io), F10 I/O (io), F11 I/O (io), F12 I/O (io), F13 I/O (io), G1 GND (power), G2 I/O (io), G3 I/O (io), G4 I/O (io), G10 I/O (io), G11 I/O (io), G12 GND (power), G13 GND (power), H1 I/O (io), H2 I/O (io), H3 I/O (io), H4 I/O (io), H10 I/O (io), H11 I/O (io), H12 I/O (io), H13 I/O (io), J1 I/O (io), J2 I/O (io), J3 I/O (io), J4 I/O (io), J10 I/O (io), J11 I/O (io), J12 I/O (io), J13 VCCINT 3.3 V (power), K1 GND (power), K2 I/O,GCK1 (io), K3 I/O (io), K4 I/O (io), K5 I/O (io), K6 I/O (io), K7 I/O (io), K8 I/O (io), K9 I/O (io), K10 I/O (io), K11 I/O (io), K12 I/O (io), K13 I/O (io), L1 I/O,GCK2 (io), L2 I/O (io), L3 I/O (io), L4 VCCINT 3.3 V (power), L5 I/O (io), L6 I/O (io), L7 VCCIO 2.5 V/3.3 V (power), L8 I/O (io), L9 TDI (in), L10 TCK (in), L11 I/O (io), L12 I/O (io), L13 I/O (io), M1 I/O (io), M2 GND (power), M3 I/O (io), M4 I/O (io), M5 GND (power), M6 I/O (io), M7 I/O (io), M8 I/O (io), M9 GND (power), M10 I/O (io), M11 I/O (io), M12 GND (power), M13 I/O (io), N1 VCCIO 2.5 V/3.3 V (power), N2 I/O,GCK3 (io), N3 I/O (io), N4 I/O (io), N5 I/O (io), N6 I/O (io), N7 I/O (io), N8 I/O (io), N9 I/O (io), N10 TMS (in), N11 I/O (io), N12 I/O (io), N13 VCCIO 2.5 V/3.3 V (power)
text: Block 8; Block 7; Block 6; Block 1; Block 5; Block 2; Block 3; Block 4

## XC95144XL-7TQ100C
designator U?
FastFLASH XC900XL, 3.3V High-Performance CPLD with 144 Macrocells, 100-Pin TQFP, Commercial Grade; PackageDocument: ver1.1, Oct-2002; Published: 17-Jul-2002; DatasheetDocument: ver1.5, Aug-2003; PackageReference: TQ100; Publisher: Altium Limited; Code_IPC: SQFP14X14-100
footprint TQ100 (100-Pin Thin Quad Flat Pack (TQ100))
3D model XC95144XL-TQ100 (100-Pin Thin Quad Flat Pack (TQ100))
signal-integrity model XC95144XL_TQ100 (XC9500XL)
pins: 1 I/O,GTS3 (io), 2 I/O,GTS4 (io), 3 I/O,GTS1 (io), 4 I/O,GTS2 (io), 5 VCCINT 3.3 V (power), 6 I/O (io), 7 I/O (io), 8 I/O (io), 9 I/O (io), 10 I/O (io), 11 I/O (io), 12 I/O (io), 13 I/O (io), 14 I/O (io), 15 I/O (io), 16 I/O (io), 17 I/O (io), 18 I/O (io), 19 I/O (io), 20 I/O (io), 21 GND (power), 22 I/O,GCK1 (io), 23 I/O,GCK2 (io), 24 I/O (io), 25 I/O (io), 26 VCCIO 2.5 V/3.3 V (power), 27 I/O,GCK3 (io), 28 I/O (io), 29 I/O (io), 30 I/O (io), 31 GND (power), 32 I/O (io), 33 I/O (io), 34 I/O (io), 35 I/O (io), 36 I/O (io), 37 I/O (io), 38 VCCIO 2.5 V/3.3 V (power), 39 I/O (io), 40 I/O (io), 41 I/O (io), 42 I/O (io), 43 I/O (io), 44 GND (power), 45 TDI (in), 46 I/O (io), 47 TMS (in), 48 TCK (in), 49 I/O (io), 50 I/O (io), 51 VCCIO 2.5 V/3.3 V (power), 52 I/O (io), 53 I/O (io), 54 I/O (io), 55 I/O (io), 56 I/O (io), 57 VCCINT 3.3 V (power), 58 I/O (io), 59 I/O (io), 60 I/O (io), 61 I/O (io), 62 GND (power), 63 I/O (io), 64 I/O (io), 65 I/O (io), 66 I/O (io), 67 I/O (io), 68 I/O (io), 69 GND (power), 70 I/O (io), 71 I/O (io), 72 I/O (io), 73 I/O (io), 74 I/O (io), 75 GND (power), 76 I/O (io), 77 I/O (io), 78 I/O (io), 79 I/O (io), 80 I/O (io), 81 I/O (io), 82 I/O (io), 83 TDO (out), 84 GND (power), 85 I/O (io), 86 I/O (io), 87 I/O (io), 88 VCCIO 2.5 V/3.3 V (power), 89 I/O (io), 90 I/O (io), 91 I/O (io), 92 I/O (io), 93 I/O (io), 94 I/O (io), 95 I/O (io), 96 I/O (io), 97 I/O (io), 98 VCCINT 3.3 V (power), 99 I/O,GSR (io), 100 GND (power)
text: Block 8; Block 7; Block 6; Block 1; Block 5; Block 2; Block 3; Block 4

## XC95144XL-7TQ100I
designator U?
FastFLASH XC900XL, 3.3V High-Performance CPLD with 144 Macrocells, 100-Pin TQFP, Industrial Grade; PackageDocument: ver1.1, Oct-2002; Published: 17-Sep-2003; DatasheetDocument: ver1.5, Aug-2003; PackageReference: TQ100; Publisher: Altium Limited; Code_IPC: SQFP14X14-100
footprint TQ100 (100-Pin Thin Quad Flat Pack (TQ100))
3D model XC95144XL-TQ100 (100-Pin Thin Quad Flat Pack (TQ100))
signal-integrity model XC95144XL_TQ100 (XC9500XL)
pins: 1 I/O,GTS3 (io), 2 I/O,GTS4 (io), 3 I/O,GTS1 (io), 4 I/O,GTS2 (io), 5 VCCINT 3.3 V (power), 6 I/O (io), 7 I/O (io), 8 I/O (io), 9 I/O (io), 10 I/O (io), 11 I/O (io), 12 I/O (io), 13 I/O (io), 14 I/O (io), 15 I/O (io), 16 I/O (io), 17 I/O (io), 18 I/O (io), 19 I/O (io), 20 I/O (io), 21 GND (power), 22 I/O,GCK1 (io), 23 I/O,GCK2 (io), 24 I/O (io), 25 I/O (io), 26 VCCIO 2.5 V/3.3 V (power), 27 I/O,GCK3 (io), 28 I/O (io), 29 I/O (io), 30 I/O (io), 31 GND (power), 32 I/O (io), 33 I/O (io), 34 I/O (io), 35 I/O (io), 36 I/O (io), 37 I/O (io), 38 VCCIO 2.5 V/3.3 V (power), 39 I/O (io), 40 I/O (io), 41 I/O (io), 42 I/O (io), 43 I/O (io), 44 GND (power), 45 TDI (in), 46 I/O (io), 47 TMS (in), 48 TCK (in), 49 I/O (io), 50 I/O (io), 51 VCCIO 2.5 V/3.3 V (power), 52 I/O (io), 53 I/O (io), 54 I/O (io), 55 I/O (io), 56 I/O (io), 57 VCCINT 3.3 V (power), 58 I/O (io), 59 I/O (io), 60 I/O (io), 61 I/O (io), 62 GND (power), 63 I/O (io), 64 I/O (io), 65 I/O (io), 66 I/O (io), 67 I/O (io), 68 I/O (io), 69 GND (power), 70 I/O (io), 71 I/O (io), 72 I/O (io), 73 I/O (io), 74 I/O (io), 75 GND (power), 76 I/O (io), 77 I/O (io), 78 I/O (io), 79 I/O (io), 80 I/O (io), 81 I/O (io), 82 I/O (io), 83 TDO (out), 84 GND (power), 85 I/O (io), 86 I/O (io), 87 I/O (io), 88 VCCIO 2.5 V/3.3 V (power), 89 I/O (io), 90 I/O (io), 91 I/O (io), 92 I/O (io), 93 I/O (io), 94 I/O (io), 95 I/O (io), 96 I/O (io), 97 I/O (io), 98 VCCINT 3.3 V (power), 99 I/O,GSR (io), 100 GND (power)
text: Block 8; Block 7; Block 6; Block 1; Block 5; Block 2; Block 3; Block 4

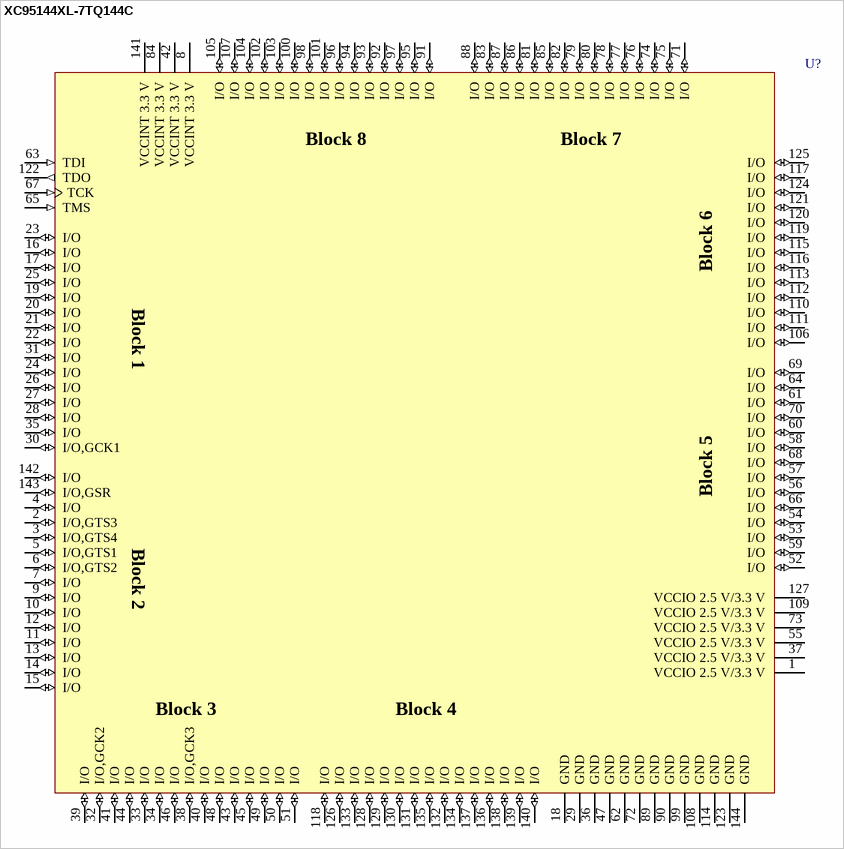
[diagram p10: symbol XC95144XL-7TQ144C]

## XC95144XL-7TQ144C
designator U?
FastFLASH XC900XL, 3.3V High-Performance CPLD with 144 Macrocells, 144-Pin TQFP, Commercial Grade; PackageDocument: ver1.1, Oct-2002; Published: 17-Jul-2002; DatasheetDocument: ver1.5, Aug-2003; PackageReference: TQ144; Publisher: Altium Limited; Code_JEDEC: MS-026-BFB; Code_IPC: SQFP20X20-144
footprint TQ144 (144-Pin Thin Quad Flat Pack (TQ144))
3D model XC95144XL-TQ144 (144-Pin Thin Quad Flat Pack (TQ144))
signal-integrity model XC95144XL_TQ144 (XC9500XL)
pins: 1 VCCIO 2.5 V/3.3 V (power), 2 I/O,GTS3 (io), 3 I/O,GTS4 (io), 4 I/O (io), 5 I/O,GTS1 (io), 6 I/O,GTS2 (io), 7 I/O (io), 8 VCCINT 3.3 V (power), 9 I/O (io), 10 I/O (io), 11 I/O (io), 12 I/O (io), 13 I/O (io), 14 I/O (io), 15 I/O (io), 16 I/O (io), 17 I/O (io), 18 GND (power), 19 I/O (io), 20 I/O (io), 21 I/O (io), 22 I/O (io), 23 I/O (io), 24 I/O (io), 25 I/O (io), 26 I/O (io), 27 I/O (io), 28 I/O (io), 29 GND (power), 30 I/O,GCK1 (io), 31 I/O (io), 32 I/O,GCK2 (io), 33 I/O (io), 34 I/O (io), 35 I/O (io), 36 GND (power), 37 VCCIO 2.5 V/3.3 V (power), 38 I/O,GCK3 (io), 39 I/O (io), 40 I/O (io), 41 I/O (io), 42 VCCINT 3.3 V (power), 43 I/O (io), 44 I/O (io), 45 I/O (io), 46 I/O (io), 47 GND (power), 48 I/O (io), 49 I/O (io), 50 I/O (io), 51 I/O (io), 52 I/O (io), 53 I/O (io), 54 I/O (io), 55 VCCIO 2.5 V/3.3 V (power), 56 I/O (io), 57 I/O (io), 58 I/O (io), 59 I/O (io), 60 I/O (io), 61 I/O (io), 62 GND (power), 63 TDI (in), 64 I/O (io), 65 TMS (in), 66 I/O (io), 67 TCK (in), 68 I/O (io), 69 I/O (io), 70 I/O (io), 71 I/O (io), 72 GND (power), 73 VCCIO 2.5 V/3.3 V (power), 74 I/O (io), 75 I/O (io), 76 I/O (io), 77 I/O (io), 78 I/O (io), 79 I/O (io), 80 I/O (io), 81 I/O (io), 82 I/O (io), 83 I/O (io), 84 VCCINT 3.3 V (power), 85 I/O (io), 86 I/O (io), 87 I/O (io), 88 I/O (io), 89 GND (power), 90 GND (power), 91 I/O (io), 92 I/O (io), 93 I/O (io), 94 I/O (io), 95 I/O (io), 96 I/O (io), 97 I/O (io), 98 I/O (io), 99 GND (power), 100 I/O (io), 101 I/O (io), 102 I/O (io), 103 I/O (io), 104 I/O (io), 105 I/O (io), 106 I/O (io), 107 I/O (io), 108 GND (power), 109 VCCIO 2.5 V/3.3 V (power), 110 I/O (io), 111 I/O (io), 112 I/O (io), 113 I/O (io), 114 GND (power), 115 I/O (io), 116 I/O (io), 117 I/O (io), 118 I/O (io), 119 I/O (io), 120 I/O (io), 121 I/O (io), 122 TDO (out), 123 GND (power), 124 I/O (io), 125 I/O (io), 126 I/O (io), 127 VCCIO 2.5 V/3.3 V (power), 128 I/O (io), 129 I/O (io), 130 I/O (io), 131 I/O (io), 132 I/O (io), 133 I/O (io), 134 I/O (io), 135 I/O (io), 136 I/O (io), 137 I/O (io), 138 I/O (io), 139 I/O (io), 140 I/O (io), 141 VCCINT 3.3 V (power), 142 I/O (io), 143 I/O,GSR (io), 144 GND (power)
text: Block 8; Block 7; Block 6; Block 1; Block 5; Block 2; Block 3; Block 4

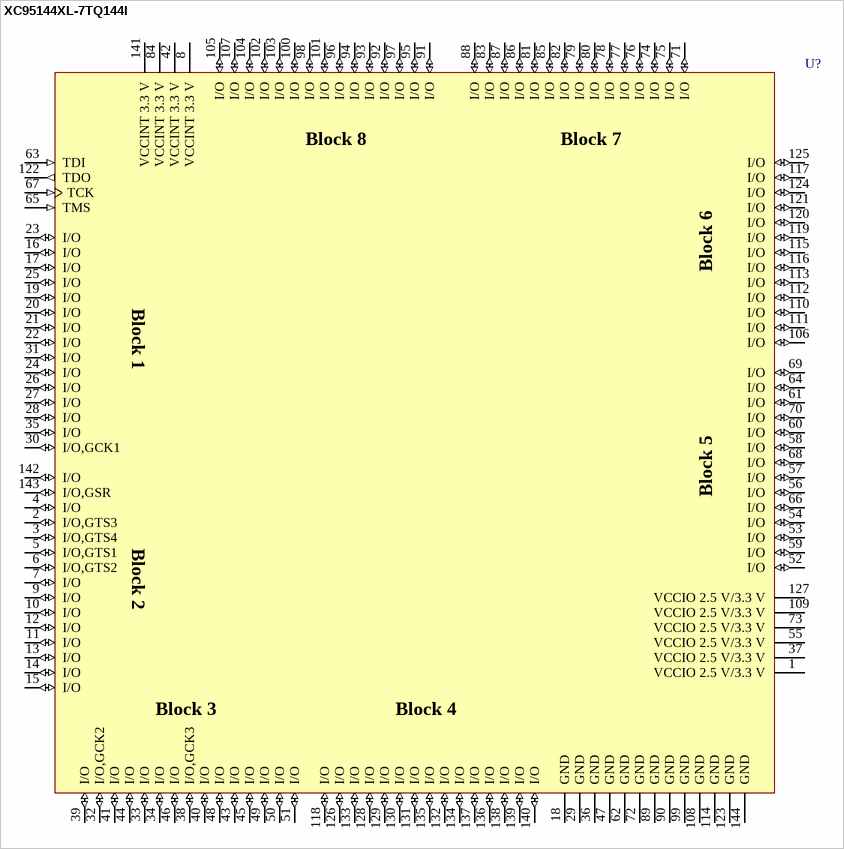
[diagram p11: symbol XC95144XL-7TQ144I]

## XC95144XL-7TQ144I
designator U?
FastFLASH XC900XL, 3.3V High-Performance CPLD with 144 Macrocells, 144-Pin TQFP, Industrial Grade; PackageDocument: ver1.1, Oct-2002; Published: 17-Sep-2003; DatasheetDocument: ver1.5, Aug-2003; PackageReference: TQ144; Publisher: Altium Limited; Code_JEDEC: MS-026-BFB; Code_IPC: SQFP20X20-144
footprint TQ144 (144-Pin Thin Quad Flat Pack (TQ144))
3D model XC95144XL-TQ144 (144-Pin Thin Quad Flat Pack (TQ144))
signal-integrity model XC95144XL_TQ144 (XC9500XL)
pins: 1 VCCIO 2.5 V/3.3 V (power), 2 I/O,GTS3 (io), 3 I/O,GTS4 (io), 4 I/O (io), 5 I/O,GTS1 (io), 6 I/O,GTS2 (io), 7 I/O (io), 8 VCCINT 3.3 V (power), 9 I/O (io), 10 I/O (io), 11 I/O (io), 12 I/O (io), 13 I/O (io), 14 I/O (io), 15 I/O (io), 16 I/O (io), 17 I/O (io), 18 GND (power), 19 I/O (io), 20 I/O (io), 21 I/O (io), 22 I/O (io), 23 I/O (io), 24 I/O (io), 25 I/O (io), 26 I/O (io), 27 I/O (io), 28 I/O (io), 29 GND (power), 30 I/O,GCK1 (io), 31 I/O (io), 32 I/O,GCK2 (io), 33 I/O (io), 34 I/O (io), 35 I/O (io), 36 GND (power), 37 VCCIO 2.5 V/3.3 V (power), 38 I/O,GCK3 (io), 39 I/O (io), 40 I/O (io), 41 I/O (io), 42 VCCINT 3.3 V (power), 43 I/O (io), 44 I/O (io), 45 I/O (io), 46 I/O (io), 47 GND (power), 48 I/O (io), 49 I/O (io), 50 I/O (io), 51 I/O (io), 52 I/O (io), 53 I/O (io), 54 I/O (io), 55 VCCIO 2.5 V/3.3 V (power), 56 I/O (io), 57 I/O (io), 58 I/O (io), 59 I/O (io), 60 I/O (io), 61 I/O (io), 62 GND (power), 63 TDI (in), 64 I/O (io), 65 TMS (in), 66 I/O (io), 67 TCK (in), 68 I/O (io), 69 I/O (io), 70 I/O (io), 71 I/O (io), 72 GND (power), 73 VCCIO 2.5 V/3.3 V (power), 74 I/O (io), 75 I/O (io), 76 I/O (io), 77 I/O (io), 78 I/O (io), 79 I/O (io), 80 I/O (io), 81 I/O (io), 82 I/O (io), 83 I/O (io), 84 VCCINT 3.3 V (power), 85 I/O (io), 86 I/O (io), 87 I/O (io), 88 I/O (io), 89 GND (power), 90 GND (power), 91 I/O (io), 92 I/O (io), 93 I/O (io), 94 I/O (io), 95 I/O (io), 96 I/O (io), 97 I/O (io), 98 I/O (io), 99 GND (power), 100 I/O (io), 101 I/O (io), 102 I/O (io), 103 I/O (io), 104 I/O (io), 105 I/O (io), 106 I/O (io), 107 I/O (io), 108 GND (power), 109 VCCIO 2.5 V/3.3 V (power), 110 I/O (io), 111 I/O (io), 112 I/O (io), 113 I/O (io), 114 GND (power), 115 I/O (io), 116 I/O (io), 117 I/O (io), 118 I/O (io), 119 I/O (io), 120 I/O (io), 121 I/O (io), 122 TDO (out), 123 GND (power), 124 I/O (io), 125 I/O (io), 126 I/O (io), 127 VCCIO 2.5 V/3.3 V (power), 128 I/O (io), 129 I/O (io), 130 I/O (io), 131 I/O (io), 132 I/O (io), 133 I/O (io), 134 I/O (io), 135 I/O (io), 136 I/O (io), 137 I/O (io), 138 I/O (io), 139 I/O (io), 140 I/O (io), 141 VCCINT 3.3 V (power), 142 I/O (io), 143 I/O,GSR (io), 144 GND (power)
text: Block 8; Block 7; Block 6; Block 1; Block 5; Block 2; Block 3; Block 4

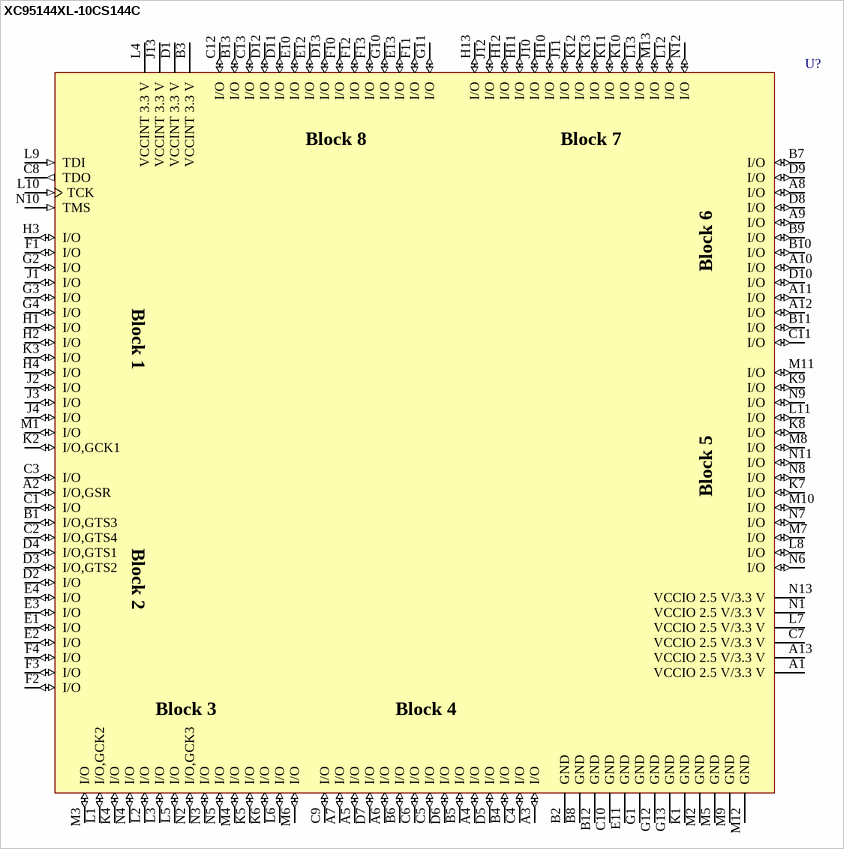
[diagram p12: symbol XC95144XL-10CS144C]

## XC95144XL-10CS144C
designator U?
FastFLASH XC900XL, 3.3V High-Performance CPLD with 144 Macrocells, 144-Ball CSBGA, Commercial Grade; PackageDocument: ver1.0, Jun-2000; Published: 17-Sep-2003; DatasheetDocument: ver1.5, Aug-2003; PackageReference: CS144; Publisher: Altium Limited
footprint CS144 (144-Ball Chip Scale Ball Grid Array (CS144))
3D model XC95144XL-CS144 (144-Ball Chip Scale Ball Grid Array (CS144))
signal-integrity model XC95144XL_CS144 (XC9500XL)
pins: A1 VCCIO 2.5 V/3.3 V (power), A2 I/O,GSR (io), A3 I/O (io), A4 I/O (io), A5 I/O (io), A6 I/O (io), A7 I/O (io), A8 I/O (io), A9 I/O (io), A10 I/O (io), A11 I/O (io), A12 I/O (io), A13 VCCIO 2.5 V/3.3 V (power), B1 I/O,GTS3 (io), B2 GND (power), B3 VCCINT 3.3 V (power), B4 I/O (io), B5 I/O (io), B6 I/O (io), B7 I/O (io), B8 GND (power), B9 I/O (io), B10 I/O (io), B11 I/O (io), B12 GND (power), B13 I/O (io), C1 I/O (io), C2 I/O,GTS4 (io), C3 I/O (io), C4 I/O (io), C5 I/O (io), C6 I/O (io), C7 VCCIO 2.5 V/3.3 V (power), C8 TDO (out), C9 I/O (io), C10 GND (power), C11 I/O (io), C12 I/O (io), C13 I/O (io), D1 VCCINT 3.3 V (power), D2 I/O (io), D3 I/O,GTS2 (io), D4 I/O,GTS1 (io), D5 I/O (io), D6 I/O (io), D7 I/O (io), D8 I/O (io), D9 I/O (io), D10 I/O (io), D11 I/O (io), D12 I/O (io), D13 I/O (io), E1 I/O (io), E2 I/O (io), E3 I/O (io), E4 I/O (io), E10 I/O (io), E11 GND (power), E12 I/O (io), E13 I/O (io), F1 I/O (io), F2 I/O (io), F3 I/O (io), F4 I/O (io), F10 I/O (io), F11 I/O (io), F12 I/O (io), F13 I/O (io), G1 GND (power), G2 I/O (io), G3 I/O (io), G4 I/O (io), G10 I/O (io), G11 I/O (io), G12 GND (power), G13 GND (power), H1 I/O (io), H2 I/O (io), H3 I/O (io), H4 I/O (io), H10 I/O (io), H11 I/O (io), H12 I/O (io), H13 I/O (io), J1 I/O (io), J2 I/O (io), J3 I/O (io), J4 I/O (io), J10 I/O (io), J11 I/O (io), J12 I/O (io), J13 VCCINT 3.3 V (power), K1 GND (power), K2 I/O,GCK1 (io), K3 I/O (io), K4 I/O (io), K5 I/O (io), K6 I/O (io), K7 I/O (io), K8 I/O (io), K9 I/O (io), K10 I/O (io), K11 I/O (io), K12 I/O (io), K13 I/O (io), L1 I/O,GCK2 (io), L2 I/O (io), L3 I/O (io), L4 VCCINT 3.3 V (power), L5 I/O (io), L6 I/O (io), L7 VCCIO 2.5 V/3.3 V (power), L8 I/O (io), L9 TDI (in), L10 TCK (in), L11 I/O (io), L12 I/O (io), L13 I/O (io), M1 I/O (io), M2 GND (power), M3 I/O (io), M4 I/O (io), M5 GND (power), M6 I/O (io), M7 I/O (io), M8 I/O (io), M9 GND (power), M10 I/O (io), M11 I/O (io), M12 GND (power), M13 I/O (io), N1 VCCIO 2.5 V/3.3 V (power), N2 I/O,GCK3 (io), N3 I/O (io), N4 I/O (io), N5 I/O (io), N6 I/O (io), N7 I/O (io), N8 I/O (io), N9 I/O (io), N10 TMS (in), N11 I/O (io), N12 I/O (io), N13 VCCIO 2.5 V/3.3 V (power)
text: Block 8; Block 7; Block 6; Block 1; Block 5; Block 2; Block 3; Block 4

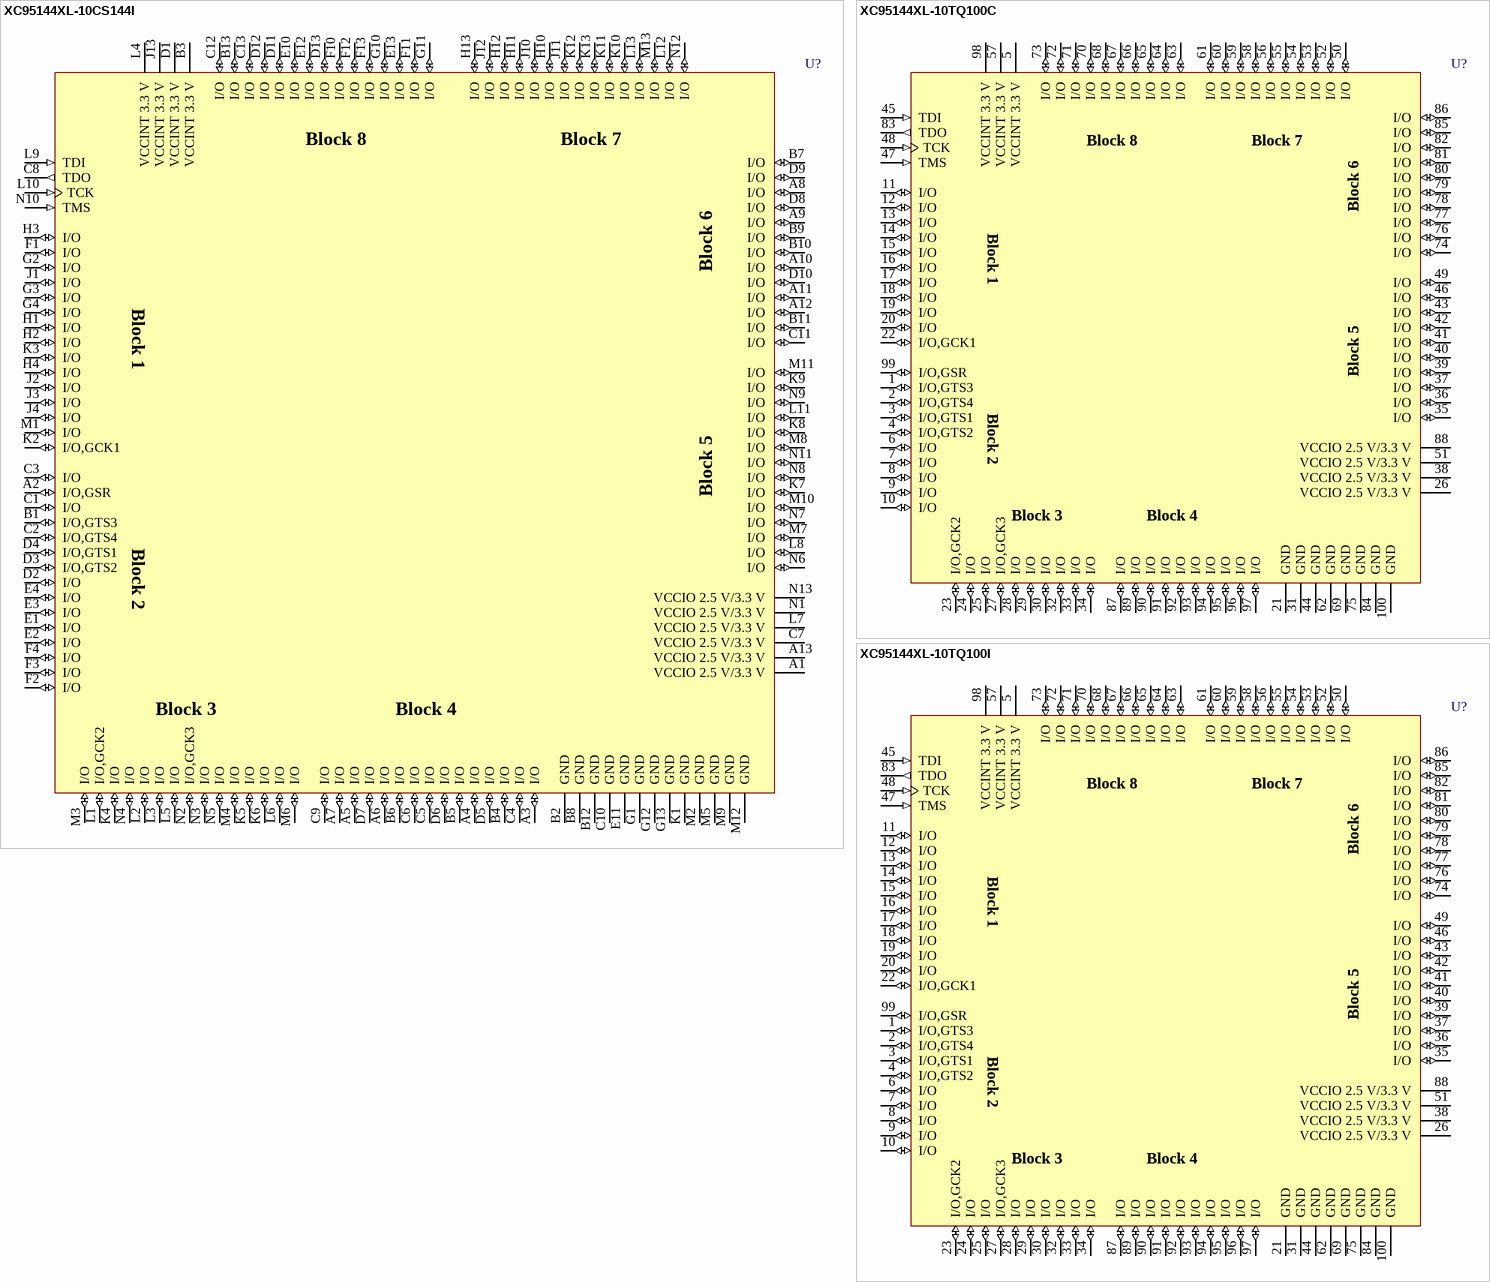
[diagram p13: symbols XC95144XL-10CS144I to XC95144XL-10TQ100I]

## XC95144XL-10CS144I
designator U?
FastFLASH XC900XL, 3.3V High-Performance CPLD with 144 Macrocells, 144-Ball CSBGA, Industrial Grade; PackageDocument: ver1.0, Jun-2000; Published: 17-Sep-2003; DatasheetDocument: ver1.5, Aug-2003; PackageReference: CS144; Publisher: Altium Limited
footprint CS144 (144-Ball Chip Scale Ball Grid Array (CS144))
3D model XC95144XL-CS144 (144-Ball Chip Scale Ball Grid Array (CS144))
signal-integrity model XC95144XL_CS144 (XC9500XL)
pins: A1 VCCIO 2.5 V/3.3 V (power), A2 I/O,GSR (io), A3 I/O (io), A4 I/O (io), A5 I/O (io), A6 I/O (io), A7 I/O (io), A8 I/O (io), A9 I/O (io), A10 I/O (io), A11 I/O (io), A12 I/O (io), A13 VCCIO 2.5 V/3.3 V (power), B1 I/O,GTS3 (io), B2 GND (power), B3 VCCINT 3.3 V (power), B4 I/O (io), B5 I/O (io), B6 I/O (io), B7 I/O (io), B8 GND (power), B9 I/O (io), B10 I/O (io), B11 I/O (io), B12 GND (power), B13 I/O (io), C1 I/O (io), C2 I/O,GTS4 (io), C3 I/O (io), C4 I/O (io), C5 I/O (io), C6 I/O (io), C7 VCCIO 2.5 V/3.3 V (power), C8 TDO (out), C9 I/O (io), C10 GND (power), C11 I/O (io), C12 I/O (io), C13 I/O (io), D1 VCCINT 3.3 V (power), D2 I/O (io), D3 I/O,GTS2 (io), D4 I/O,GTS1 (io), D5 I/O (io), D6 I/O (io), D7 I/O (io), D8 I/O (io), D9 I/O (io), D10 I/O (io), D11 I/O (io), D12 I/O (io), D13 I/O (io), E1 I/O (io), E2 I/O (io), E3 I/O (io), E4 I/O (io), E10 I/O (io), E11 GND (power), E12 I/O (io), E13 I/O (io), F1 I/O (io), F2 I/O (io), F3 I/O (io), F4 I/O (io), F10 I/O (io), F11 I/O (io), F12 I/O (io), F13 I/O (io), G1 GND (power), G2 I/O (io), G3 I/O (io), G4 I/O (io), G10 I/O (io), G11 I/O (io), G12 GND (power), G13 GND (power), H1 I/O (io), H2 I/O (io), H3 I/O (io), H4 I/O (io), H10 I/O (io), H11 I/O (io), H12 I/O (io), H13 I/O (io), J1 I/O (io), J2 I/O (io), J3 I/O (io), J4 I/O (io), J10 I/O (io), J11 I/O (io), J12 I/O (io), J13 VCCINT 3.3 V (power), K1 GND (power), K2 I/O,GCK1 (io), K3 I/O (io), K4 I/O (io), K5 I/O (io), K6 I/O (io), K7 I/O (io), K8 I/O (io), K9 I/O (io), K10 I/O (io), K11 I/O (io), K12 I/O (io), K13 I/O (io), L1 I/O,GCK2 (io), L2 I/O (io), L3 I/O (io), L4 VCCINT 3.3 V (power), L5 I/O (io), L6 I/O (io), L7 VCCIO 2.5 V/3.3 V (power), L8 I/O (io), L9 TDI (in), L10 TCK (in), L11 I/O (io), L12 I/O (io), L13 I/O (io), M1 I/O (io), M2 GND (power), M3 I/O (io), M4 I/O (io), M5 GND (power), M6 I/O (io), M7 I/O (io), M8 I/O (io), M9 GND (power), M10 I/O (io), M11 I/O (io), M12 GND (power), M13 I/O (io), N1 VCCIO 2.5 V/3.3 V (power), N2 I/O,GCK3 (io), N3 I/O (io), N4 I/O (io), N5 I/O (io), N6 I/O (io), N7 I/O (io), N8 I/O (io), N9 I/O (io), N10 TMS (in), N11 I/O (io), N12 I/O (io), N13 VCCIO 2.5 V/3.3 V (power)
text: Block 8; Block 7; Block 6; Block 1; Block 5; Block 2; Block 3; Block 4

## XC95144XL-10TQ100C
designator U?
FastFLASH XC900XL, 3.3V High-Performance CPLD with 144 Macrocells, 100-Pin TQFP, Commercial Grade; PackageDocument: ver1.1, Oct-2002; Published: 17-Jul-2002; DatasheetDocument: ver1.5, Aug-2003; PackageReference: TQ100; Publisher: Altium Limited; Code_IPC: SQFP14X14-100
footprint TQ100 (100-Pin Thin Quad Flat Pack (TQ100))
3D model XC95144XL-TQ100 (100-Pin Thin Quad Flat Pack (TQ100))
signal-integrity model XC95144XL_TQ100 (XC9500XL)
pins: 1 I/O,GTS3 (io), 2 I/O,GTS4 (io), 3 I/O,GTS1 (io), 4 I/O,GTS2 (io), 5 VCCINT 3.3 V (power), 6 I/O (io), 7 I/O (io), 8 I/O (io), 9 I/O (io), 10 I/O (io), 11 I/O (io), 12 I/O (io), 13 I/O (io), 14 I/O (io), 15 I/O (io), 16 I/O (io), 17 I/O (io), 18 I/O (io), 19 I/O (io), 20 I/O (io), 21 GND (power), 22 I/O,GCK1 (io), 23 I/O,GCK2 (io), 24 I/O (io), 25 I/O (io), 26 VCCIO 2.5 V/3.3 V (power), 27 I/O,GCK3 (io), 28 I/O (io), 29 I/O (io), 30 I/O (io), 31 GND (power), 32 I/O (io), 33 I/O (io), 34 I/O (io), 35 I/O (io), 36 I/O (io), 37 I/O (io), 38 VCCIO 2.5 V/3.3 V (power), 39 I/O (io), 40 I/O (io), 41 I/O (io), 42 I/O (io), 43 I/O (io), 44 GND (power), 45 TDI (in), 46 I/O (io), 47 TMS (in), 48 TCK (in), 49 I/O (io), 50 I/O (io), 51 VCCIO 2.5 V/3.3 V (power), 52 I/O (io), 53 I/O (io), 54 I/O (io), 55 I/O (io), 56 I/O (io), 57 VCCINT 3.3 V (power), 58 I/O (io), 59 I/O (io), 60 I/O (io), 61 I/O (io), 62 GND (power), 63 I/O (io), 64 I/O (io), 65 I/O (io), 66 I/O (io), 67 I/O (io), 68 I/O (io), 69 GND (power), 70 I/O (io), 71 I/O (io), 72 I/O (io), 73 I/O (io), 74 I/O (io), 75 GND (power), 76 I/O (io), 77 I/O (io), 78 I/O (io), 79 I/O (io), 80 I/O (io), 81 I/O (io), 82 I/O (io), 83 TDO (out), 84 GND (power), 85 I/O (io), 86 I/O (io), 87 I/O (io), 88 VCCIO 2.5 V/3.3 V (power), 89 I/O (io), 90 I/O (io), 91 I/O (io), 92 I/O (io), 93 I/O (io), 94 I/O (io), 95 I/O (io), 96 I/O (io), 97 I/O (io), 98 VCCINT 3.3 V (power), 99 I/O,GSR (io), 100 GND (power)
text: Block 8; Block 7; Block 6; Block 1; Block 5; Block 2; Block 3; Block 4

## XC95144XL-10TQ100I
designator U?
FastFLASH XC900XL, 3.3V High-Performance CPLD with 144 Macrocells, 100-Pin TQFP, Industrial Grade; PackageDocument: ver1.1, Oct-2002; Published: 17-Jul-2002; DatasheetDocument: ver1.5, Aug-2003; PackageReference: TQ100; Publisher: Altium Limited; Code_IPC: SQFP14X14-100
footprint TQ100 (100-Pin Thin Quad Flat Pack (TQ100))
3D model XC95144XL-TQ100 (100-Pin Thin Quad Flat Pack (TQ100))
signal-integrity model XC95144XL_TQ100 (XC9500XL)
pins: 1 I/O,GTS3 (io), 2 I/O,GTS4 (io), 3 I/O,GTS1 (io), 4 I/O,GTS2 (io), 5 VCCINT 3.3 V (power), 6 I/O (io), 7 I/O (io), 8 I/O (io), 9 I/O (io), 10 I/O (io), 11 I/O (io), 12 I/O (io), 13 I/O (io), 14 I/O (io), 15 I/O (io), 16 I/O (io), 17 I/O (io), 18 I/O (io), 19 I/O (io), 20 I/O (io), 21 GND (power), 22 I/O,GCK1 (io), 23 I/O,GCK2 (io), 24 I/O (io), 25 I/O (io), 26 VCCIO 2.5 V/3.3 V (power), 27 I/O,GCK3 (io), 28 I/O (io), 29 I/O (io), 30 I/O (io), 31 GND (power), 32 I/O (io), 33 I/O (io), 34 I/O (io), 35 I/O (io), 36 I/O (io), 37 I/O (io), 38 VCCIO 2.5 V/3.3 V (power), 39 I/O (io), 40 I/O (io), 41 I/O (io), 42 I/O (io), 43 I/O (io), 44 GND (power), 45 TDI (in), 46 I/O (io), 47 TMS (in), 48 TCK (in), 49 I/O (io), 50 I/O (io), 51 VCCIO 2.5 V/3.3 V (power), 52 I/O (io), 53 I/O (io), 54 I/O (io), 55 I/O (io), 56 I/O (io), 57 VCCINT 3.3 V (power), 58 I/O (io), 59 I/O (io), 60 I/O (io), 61 I/O (io), 62 GND (power), 63 I/O (io), 64 I/O (io), 65 I/O (io), 66 I/O (io), 67 I/O (io), 68 I/O (io), 69 GND (power), 70 I/O (io), 71 I/O (io), 72 I/O (io), 73 I/O (io), 74 I/O (io), 75 GND (power), 76 I/O (io), 77 I/O (io), 78 I/O (io), 79 I/O (io), 80 I/O (io), 81 I/O (io), 82 I/O (io), 83 TDO (out), 84 GND (power), 85 I/O (io), 86 I/O (io), 87 I/O (io), 88 VCCIO 2.5 V/3.3 V (power), 89 I/O (io), 90 I/O (io), 91 I/O (io), 92 I/O (io), 93 I/O (io), 94 I/O (io), 95 I/O (io), 96 I/O (io), 97 I/O (io), 98 VCCINT 3.3 V (power), 99 I/O,GSR (io), 100 GND (power)
text: Block 8; Block 7; Block 6; Block 1; Block 5; Block 2; Block 3; Block 4

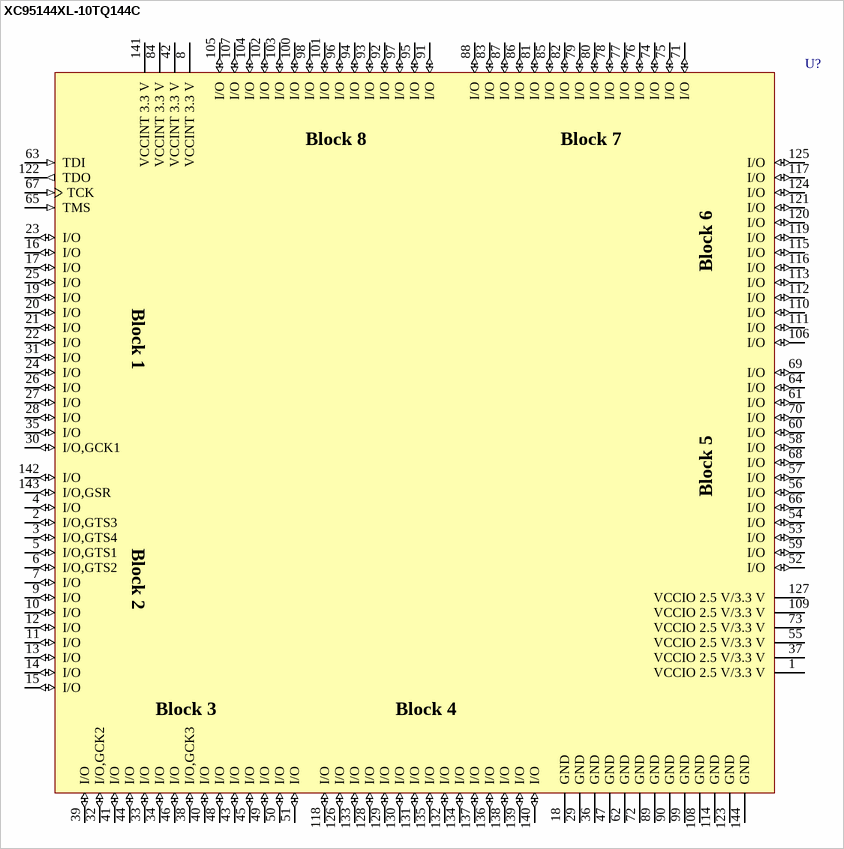
[diagram p14: symbol XC95144XL-10TQ144C]

## XC95144XL-10TQ144C
designator U?
FastFLASH XC900XL, 3.3V High-Performance CPLD with 144 Macrocells, 144-Pin TQFP, Commercial Grade; PackageDocument: ver1.1, Oct-2002; Published: 17-Jul-2002; DatasheetDocument: ver1.5, Aug-2003; PackageReference: TQ144; Publisher: Altium Limited; Code_JEDEC: MS-026-BFB; Code_IPC: SQFP20X20-144
footprint TQ144 (144-Pin Thin Quad Flat Pack (TQ144))
3D model XC95144XL-TQ144 (144-Pin Thin Quad Flat Pack (TQ144))
signal-integrity model XC95144XL_TQ144 (XC9500XL)
pins: 1 VCCIO 2.5 V/3.3 V (power), 2 I/O,GTS3 (io), 3 I/O,GTS4 (io), 4 I/O (io), 5 I/O,GTS1 (io), 6 I/O,GTS2 (io), 7 I/O (io), 8 VCCINT 3.3 V (power), 9 I/O (io), 10 I/O (io), 11 I/O (io), 12 I/O (io), 13 I/O (io), 14 I/O (io), 15 I/O (io), 16 I/O (io), 17 I/O (io), 18 GND (power), 19 I/O (io), 20 I/O (io), 21 I/O (io), 22 I/O (io), 23 I/O (io), 24 I/O (io), 25 I/O (io), 26 I/O (io), 27 I/O (io), 28 I/O (io), 29 GND (power), 30 I/O,GCK1 (io), 31 I/O (io), 32 I/O,GCK2 (io), 33 I/O (io), 34 I/O (io), 35 I/O (io), 36 GND (power), 37 VCCIO 2.5 V/3.3 V (power), 38 I/O,GCK3 (io), 39 I/O (io), 40 I/O (io), 41 I/O (io), 42 VCCINT 3.3 V (power), 43 I/O (io), 44 I/O (io), 45 I/O (io), 46 I/O (io), 47 GND (power), 48 I/O (io), 49 I/O (io), 50 I/O (io), 51 I/O (io), 52 I/O (io), 53 I/O (io), 54 I/O (io), 55 VCCIO 2.5 V/3.3 V (power), 56 I/O (io), 57 I/O (io), 58 I/O (io), 59 I/O (io), 60 I/O (io), 61 I/O (io), 62 GND (power), 63 TDI (in), 64 I/O (io), 65 TMS (in), 66 I/O (io), 67 TCK (in), 68 I/O (io), 69 I/O (io), 70 I/O (io), 71 I/O (io), 72 GND (power), 73 VCCIO 2.5 V/3.3 V (power), 74 I/O (io), 75 I/O (io), 76 I/O (io), 77 I/O (io), 78 I/O (io), 79 I/O (io), 80 I/O (io), 81 I/O (io), 82 I/O (io), 83 I/O (io), 84 VCCINT 3.3 V (power), 85 I/O (io), 86 I/O (io), 87 I/O (io), 88 I/O (io), 89 GND (power), 90 GND (power), 91 I/O (io), 92 I/O (io), 93 I/O (io), 94 I/O (io), 95 I/O (io), 96 I/O (io), 97 I/O (io), 98 I/O (io), 99 GND (power), 100 I/O (io), 101 I/O (io), 102 I/O (io), 103 I/O (io), 104 I/O (io), 105 I/O (io), 106 I/O (io), 107 I/O (io), 108 GND (power), 109 VCCIO 2.5 V/3.3 V (power), 110 I/O (io), 111 I/O (io), 112 I/O (io), 113 I/O (io), 114 GND (power), 115 I/O (io), 116 I/O (io), 117 I/O (io), 118 I/O (io), 119 I/O (io), 120 I/O (io), 121 I/O (io), 122 TDO (out), 123 GND (power), 124 I/O (io), 125 I/O (io), 126 I/O (io), 127 VCCIO 2.5 V/3.3 V (power), 128 I/O (io), 129 I/O (io), 130 I/O (io), 131 I/O (io), 132 I/O (io), 133 I/O (io), 134 I/O (io), 135 I/O (io), 136 I/O (io), 137 I/O (io), 138 I/O (io), 139 I/O (io), 140 I/O (io), 141 VCCINT 3.3 V (power), 142 I/O (io), 143 I/O,GSR (io), 144 GND (power)
text: Block 8; Block 7; Block 6; Block 1; Block 5; Block 2; Block 3; Block 4

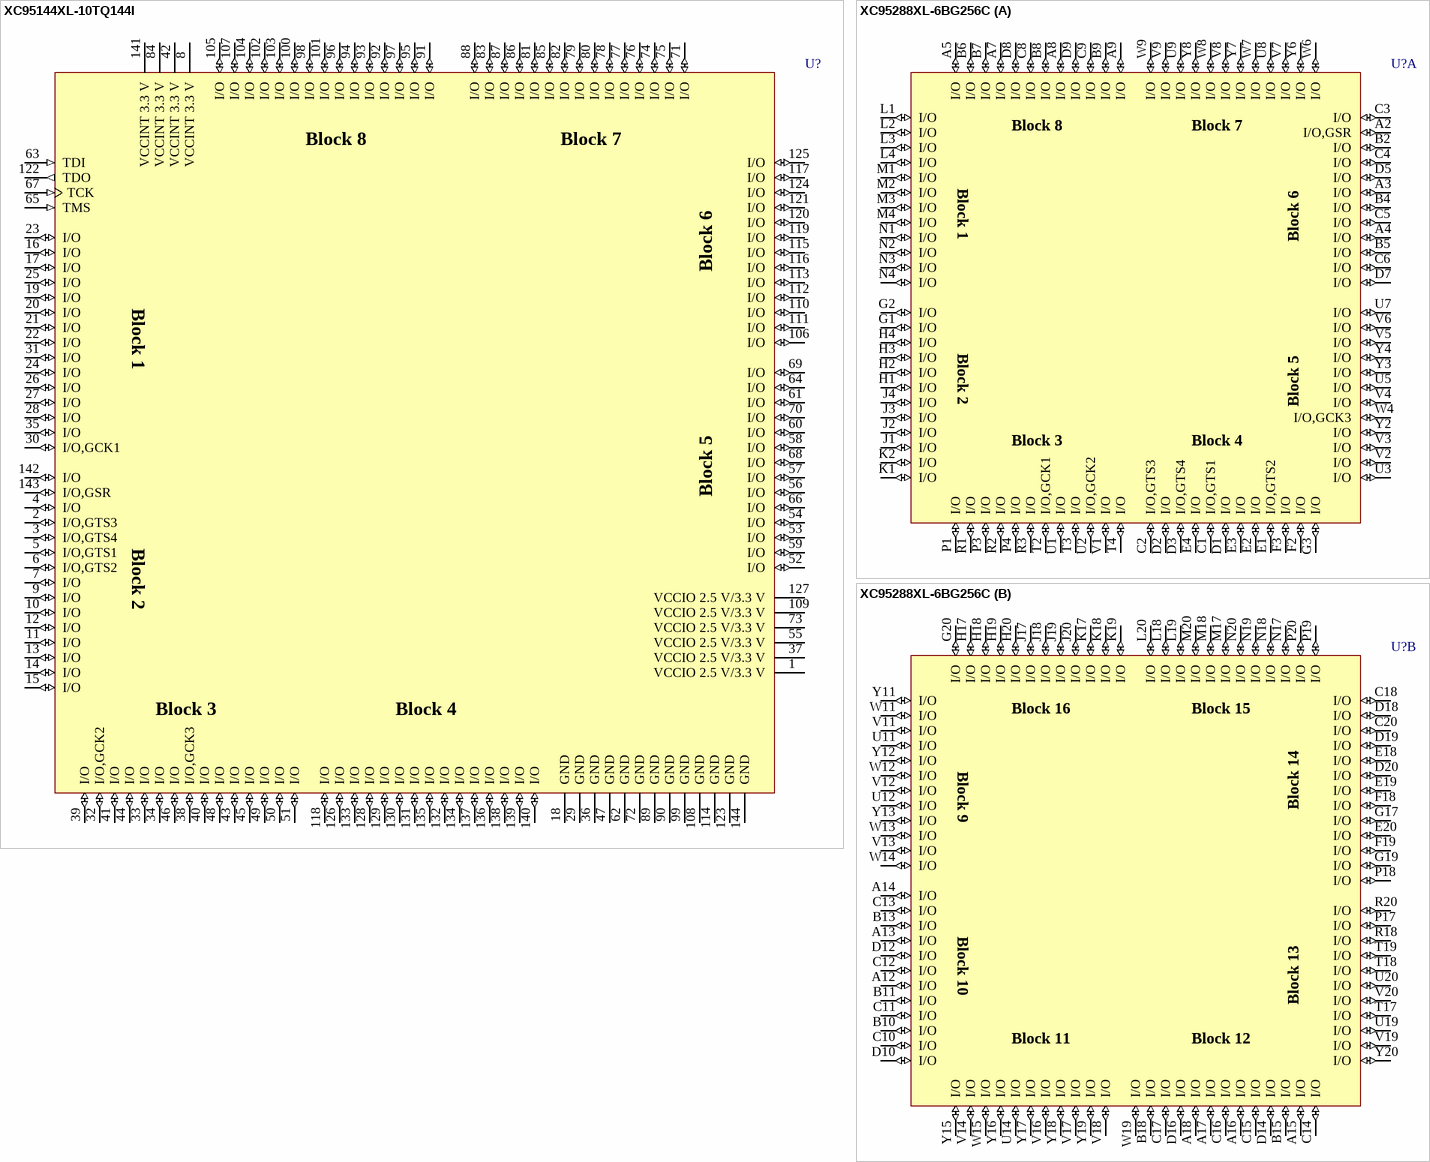
[diagram p15: symbols XC95144XL-10TQ144I to XC95288XL-6BG256C]

## XC95144XL-10TQ144I
designator U?
FastFLASH XC900XL, 3.3V High-Performance CPLD with 144 Macrocells, 144-Pin TQFP, Industrial Grade; PackageDocument: ver1.1, Oct-2002; Published: 17-Jul-2002; DatasheetDocument: ver1.5, Aug-2003; PackageReference: TQ144; Publisher: Altium Limited; Code_JEDEC: MS-026-BFB; Code_IPC: SQFP20X20-144
footprint TQ144 (144-Pin Thin Quad Flat Pack (TQ144))
3D model XC95144XL-TQ144 (144-Pin Thin Quad Flat Pack (TQ144))
signal-integrity model XC95144XL_TQ144 (XC9500XL)
pins: 1 VCCIO 2.5 V/3.3 V (power), 2 I/O,GTS3 (io), 3 I/O,GTS4 (io), 4 I/O (io), 5 I/O,GTS1 (io), 6 I/O,GTS2 (io), 7 I/O (io), 8 VCCINT 3.3 V (power), 9 I/O (io), 10 I/O (io), 11 I/O (io), 12 I/O (io), 13 I/O (io), 14 I/O (io), 15 I/O (io), 16 I/O (io), 17 I/O (io), 18 GND (power), 19 I/O (io), 20 I/O (io), 21 I/O (io), 22 I/O (io), 23 I/O (io), 24 I/O (io), 25 I/O (io), 26 I/O (io), 27 I/O (io), 28 I/O (io), 29 GND (power), 30 I/O,GCK1 (io), 31 I/O (io), 32 I/O,GCK2 (io), 33 I/O (io), 34 I/O (io), 35 I/O (io), 36 GND (power), 37 VCCIO 2.5 V/3.3 V (power), 38 I/O,GCK3 (io), 39 I/O (io), 40 I/O (io), 41 I/O (io), 42 VCCINT 3.3 V (power), 43 I/O (io), 44 I/O (io), 45 I/O (io), 46 I/O (io), 47 GND (power), 48 I/O (io), 49 I/O (io), 50 I/O (io), 51 I/O (io), 52 I/O (io), 53 I/O (io), 54 I/O (io), 55 VCCIO 2.5 V/3.3 V (power), 56 I/O (io), 57 I/O (io), 58 I/O (io), 59 I/O (io), 60 I/O (io), 61 I/O (io), 62 GND (power), 63 TDI (in), 64 I/O (io), 65 TMS (in), 66 I/O (io), 67 TCK (in), 68 I/O (io), 69 I/O (io), 70 I/O (io), 71 I/O (io), 72 GND (power), 73 VCCIO 2.5 V/3.3 V (power), 74 I/O (io), 75 I/O (io), 76 I/O (io), 77 I/O (io), 78 I/O (io), 79 I/O (io), 80 I/O (io), 81 I/O (io), 82 I/O (io), 83 I/O (io), 84 VCCINT 3.3 V (power), 85 I/O (io), 86 I/O (io), 87 I/O (io), 88 I/O (io), 89 GND (power), 90 GND (power), 91 I/O (io), 92 I/O (io), 93 I/O (io), 94 I/O (io), 95 I/O (io), 96 I/O (io), 97 I/O (io), 98 I/O (io), 99 GND (power), 100 I/O (io), 101 I/O (io), 102 I/O (io), 103 I/O (io), 104 I/O (io), 105 I/O (io), 106 I/O (io), 107 I/O (io), 108 GND (power), 109 VCCIO 2.5 V/3.3 V (power), 110 I/O (io), 111 I/O (io), 112 I/O (io), 113 I/O (io), 114 GND (power), 115 I/O (io), 116 I/O (io), 117 I/O (io), 118 I/O (io), 119 I/O (io), 120 I/O (io), 121 I/O (io), 122 TDO (out), 123 GND (power), 124 I/O (io), 125 I/O (io), 126 I/O (io), 127 VCCIO 2.5 V/3.3 V (power), 128 I/O (io), 129 I/O (io), 130 I/O (io), 131 I/O (io), 132 I/O (io), 133 I/O (io), 134 I/O (io), 135 I/O (io), 136 I/O (io), 137 I/O (io), 138 I/O (io), 139 I/O (io), 140 I/O (io), 141 VCCINT 3.3 V (power), 142 I/O (io), 143 I/O,GSR (io), 144 GND (power)
text: Block 8; Block 7; Block 6; Block 1; Block 5; Block 2; Block 3; Block 4

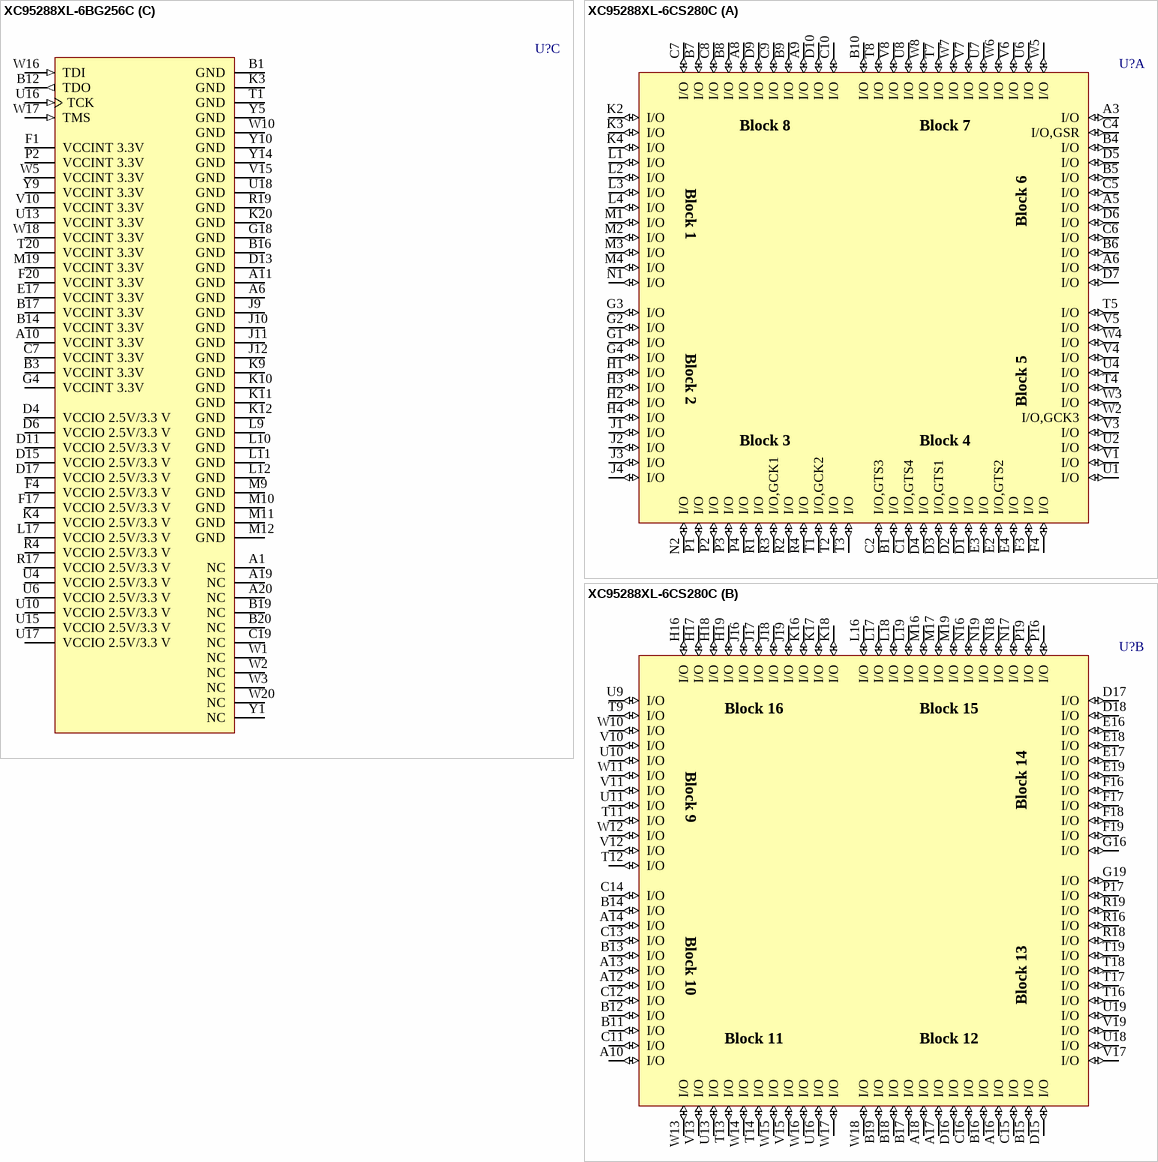
[diagram p16: symbols XC95288XL-6BG256C to XC95288XL-6CS280C]